# Altium schematic symbol library Blinkinlabs.SchLib: 259 symbols (part 2 of 3)
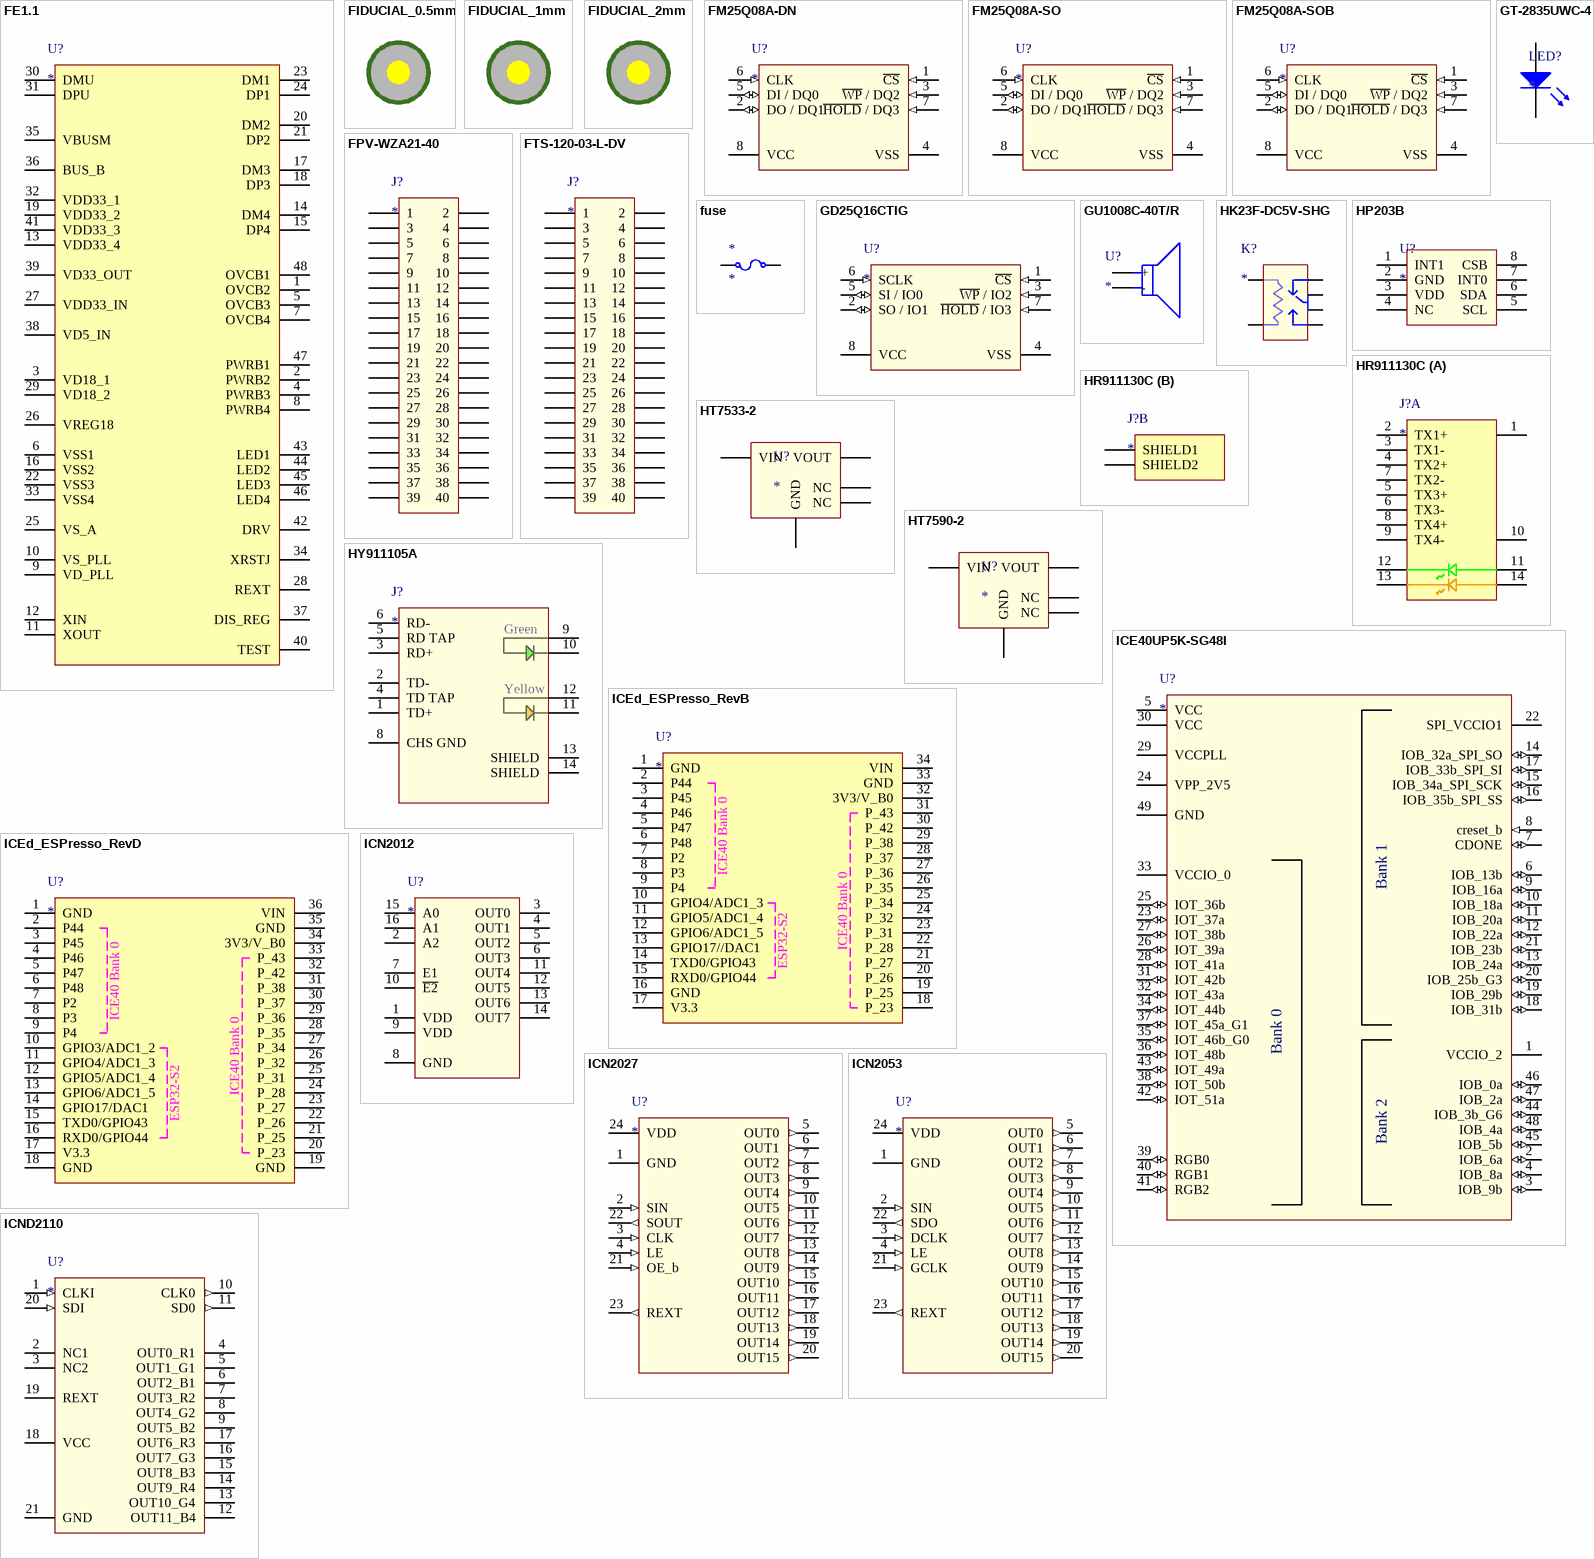
[diagram p10: symbols FE1.1 to ICND2110]

## ICE40UP5K-SG48I
designator U?
iCE40 UltraPlus FPG; Manufacturer: Lattice Semiconductor; PartNumber: ICE40UP5K-SG48I
footprint QFN50P700X700X90_HS-49N (QFN, 48-Leads, Body 7.00x7.00mm, Pitch 0.50mm, Thermal Pad 5.40x5.40mm, IPC Medium Density)
pins: 1 VCCIO_2 (power), 2 IOB_6a (io), 3 IOB_9b (io), 4 IOB_8a (io), 5 VCC (power), 6 IOB_13b (io), 7 CDONE (io), 8 creset_b (in), 9 IOB_16a (io), 10 IOB_18a (io), 11 IOB_20a (io), 12 IOB_22a (io), 13 IOB_24a (io), 14 IOB_32a_SPI_SO (io), 15 IOB_34a_SPI_SCK (io), 16 IOB_35b_SPI_SS (io), 17 IOB_33b_SPI_SI (io), 18 IOB_31b (io), 19 IOB_29b (io), 20 IOB_25b_G3 (io), 21 IOB_23b (io), 22 SPI_VCCIO1 (power), 23 IOT_37a (io), 24 VPP_2V5 (power), 25 IOT_36b (io), 26 IOT_39a (io), 27 IOT_38b (io), 28 IOT_41a (io), 29 VCCPLL (power), 30 VCC (power), 31 IOT_42b (io), 32 IOT_43a (io), 33 VCCIO_0 (power), 34 IOT_44b (io), 35 IOT_46b_G0 (io), 36 IOT_48b (io), 37 IOT_45a_G1 (io), 38 IOT_50b (io), 39 RGB0 (io), 40 RGB1 (io), 41 RGB2 (io), 42 IOT_51a (io), 43 IOT_49a (io), 44 IOB_3b_G6 (io), 45 IOB_5b (io), 46 IOB_0a (io), 47 IOB_2a (io), 48 IOB_4a (io), 49 GND (power)
text: Bank 1; Bank 0; Bank 2

## ICEd_ESPresso_RevB
designator U?
Manufacturer: Blinkinlabs; PartNumber: ICEDESP32S2_B
footprint ICEd ESPresso RevB (castellated edges)
footprint ICEd ESPresso RevB (headers)
pins: 1 GND, 2 P44, 3 P45, 4 P46, 5 P47, 6 P48, 7 P2, 8 P3, 9 P4, 10 GPIO4/ADC1_3, 11 GPIO5/ADC1_4, 12 GPIO6/ADC1_5, 13 GPIO17//DAC1, 14 TXD0/GPIO43, 15 RXD0/GPIO44, 16 GND, 17 V3.3, 18 P_23, 19 P_25, 20 P_26, 21 P_27, 22 P_28, 23 P_31, 24 P_32, 25 P_34, 26 P_35, 27 P_36, 28 P_37, 29 P_38, 30 P_42, 31 P_43, 32 3V3/V_B0, 33 GND, 34 VIN
text: ICE40 Bank 0; ESP32-S2

## ICEd_ESPresso_RevD
designator U?
Manufacturer: Blinkinlabs; PartNumber: ICEDESP32S2_B
footprint ICEd ESPresso RevD (headers)
pins: 1 GND, 2 P44, 3 P45, 4 P46, 5 P47, 6 P48, 7 P2, 8 P3, 9 P4, 10 GPIO3/ADC1_2, 11 GPIO4/ADC1_3, 12 GPIO5/ADC1_4, 13 GPIO6/ADC1_5, 14 GPIO17/DAC1, 15 TXD0/GPIO43, 16 RXD0/GPIO44, 17 V3.3, 18 GND, 19 GND, 20 P_23, 21 P_25, 22 P_26, 23 P_27, 24 P_28, 25 P_31, 26 P_32, 27 P_34, 28 P_35, 29 P_36, 30 P_37, 31 P_38, 32 P_42, 33 P_43, 34 3V3/V_B0, 35 GND, 36 VIN
text: ICE40 Bank 0; ESP32-S2

## ICN2012
designator U?
8-Channel Power Switch for LED Display; Manufacturer: ChipOne; PartNumber: ICN2012
footprint SOP127P600X175-16N (SOP, 16-Leads, Body 9.90x3.90mm, Pitch 1.27mm, IPC Medium Density)
pins: 1 VDD, 2 A2, 3 OUT0, 4 OUT1, 5 OUT2, 6 OUT3, 7 E1, 8 GND, 9 VDD, 10 ~{E2}, 11 OUT4, 12 OUT5, 13 OUT6, 14 OUT7, 15 A0, 16 A1

## ICN2027
designator U?
16-Channel Constant Current LED Sink Driver; Manufacturer: ChipOne; PartNumber: ICN2027BP; ComponentLink2Description: Datasheet; ComponentLink2URL: ICN2027_datasheet_EN_2015_V0.2.pdf
footprint SOP64P600X175-24N (SOP, 24-Leads, Body 8.65x3.90mm, Pitch 0.64mm, IPC Medium Density)
pins: 1 GND (power), 2 SIN (in), 3 CLK (in), 4 LE (in), 5 OUT0 (out), 6 OUT1 (out), 7 OUT2 (out), 8 OUT3 (out), 9 OUT4 (out), 10 OUT5 (out), 11 OUT6 (out), 12 OUT7 (out), 13 OUT8 (out), 14 OUT9 (out), 15 OUT10 (out), 16 OUT11 (out), 17 OUT12 (out), 18 OUT13 (out), 19 OUT14 (out), 20 OUT15 (out), 21 OE_b (in), 22 SOUT (out), 23 REXT (out), 24 VDD (power)

## ICN2053
designator U?
16-Channel PWM Constant Current LED Sink Driver; Manufacturer: ChipOne; PartNumber: ICN2053
footprint SOP64P600X175-24N (SOP, 24-Leads, Body 8.65x3.90mm, Pitch 0.64mm, IPC Medium Density)
pins: 1 GND (power), 2 SIN (in), 3 DCLK (in), 4 LE (in), 5 OUT0 (out), 6 OUT1 (out), 7 OUT2 (out), 8 OUT3 (out), 9 OUT4 (out), 10 OUT5 (out), 11 OUT6 (out), 12 OUT7 (out), 13 OUT8 (out), 14 OUT9 (out), 15 OUT10 (out), 16 OUT11 (out), 17 OUT12 (out), 18 OUT13 (out), 19 OUT14 (out), 20 OUT15 (out), 21 GCLK (in), 22 SDO (out), 23 REXT (out), 24 VDD (power)

## ICND2110
designator U?
12-Channel PWM Constant Current LED Sink Driver; Manufacturer: ChipOne; PartNumber: ICND2110
footprint QFN50P250X450X90_HS-21N (QFN, 20-Leads, Body 2.50x4.50mm, Pitch 0.50mm, Thermal Pad 0.80x2.83mm, IPC Medium Density)
pins: 1 CLKI (in), 2 NC1, 3 NC2, 4 OUT0_R1 (oc), 5 OUT1_G1 (oc), 6 OUT2_B1 (oc), 7 OUT3_R2 (oc), 8 OUT4_G2 (oc), 9 OUT5_B2 (oc), 10 CLK0 (out), 11 SD0 (out), 12 OUT11_B4 (oc), 13 OUT10_G4 (oc), 14 OUT9_R4 (oc), 15 OUT8_B3 (oc), 16 OUT7_G3 (oc), 17 OUT6_R3 (oc), 18 VCC (power), 19 REXT (oe), 20 SDI (in), 21 GND (power)

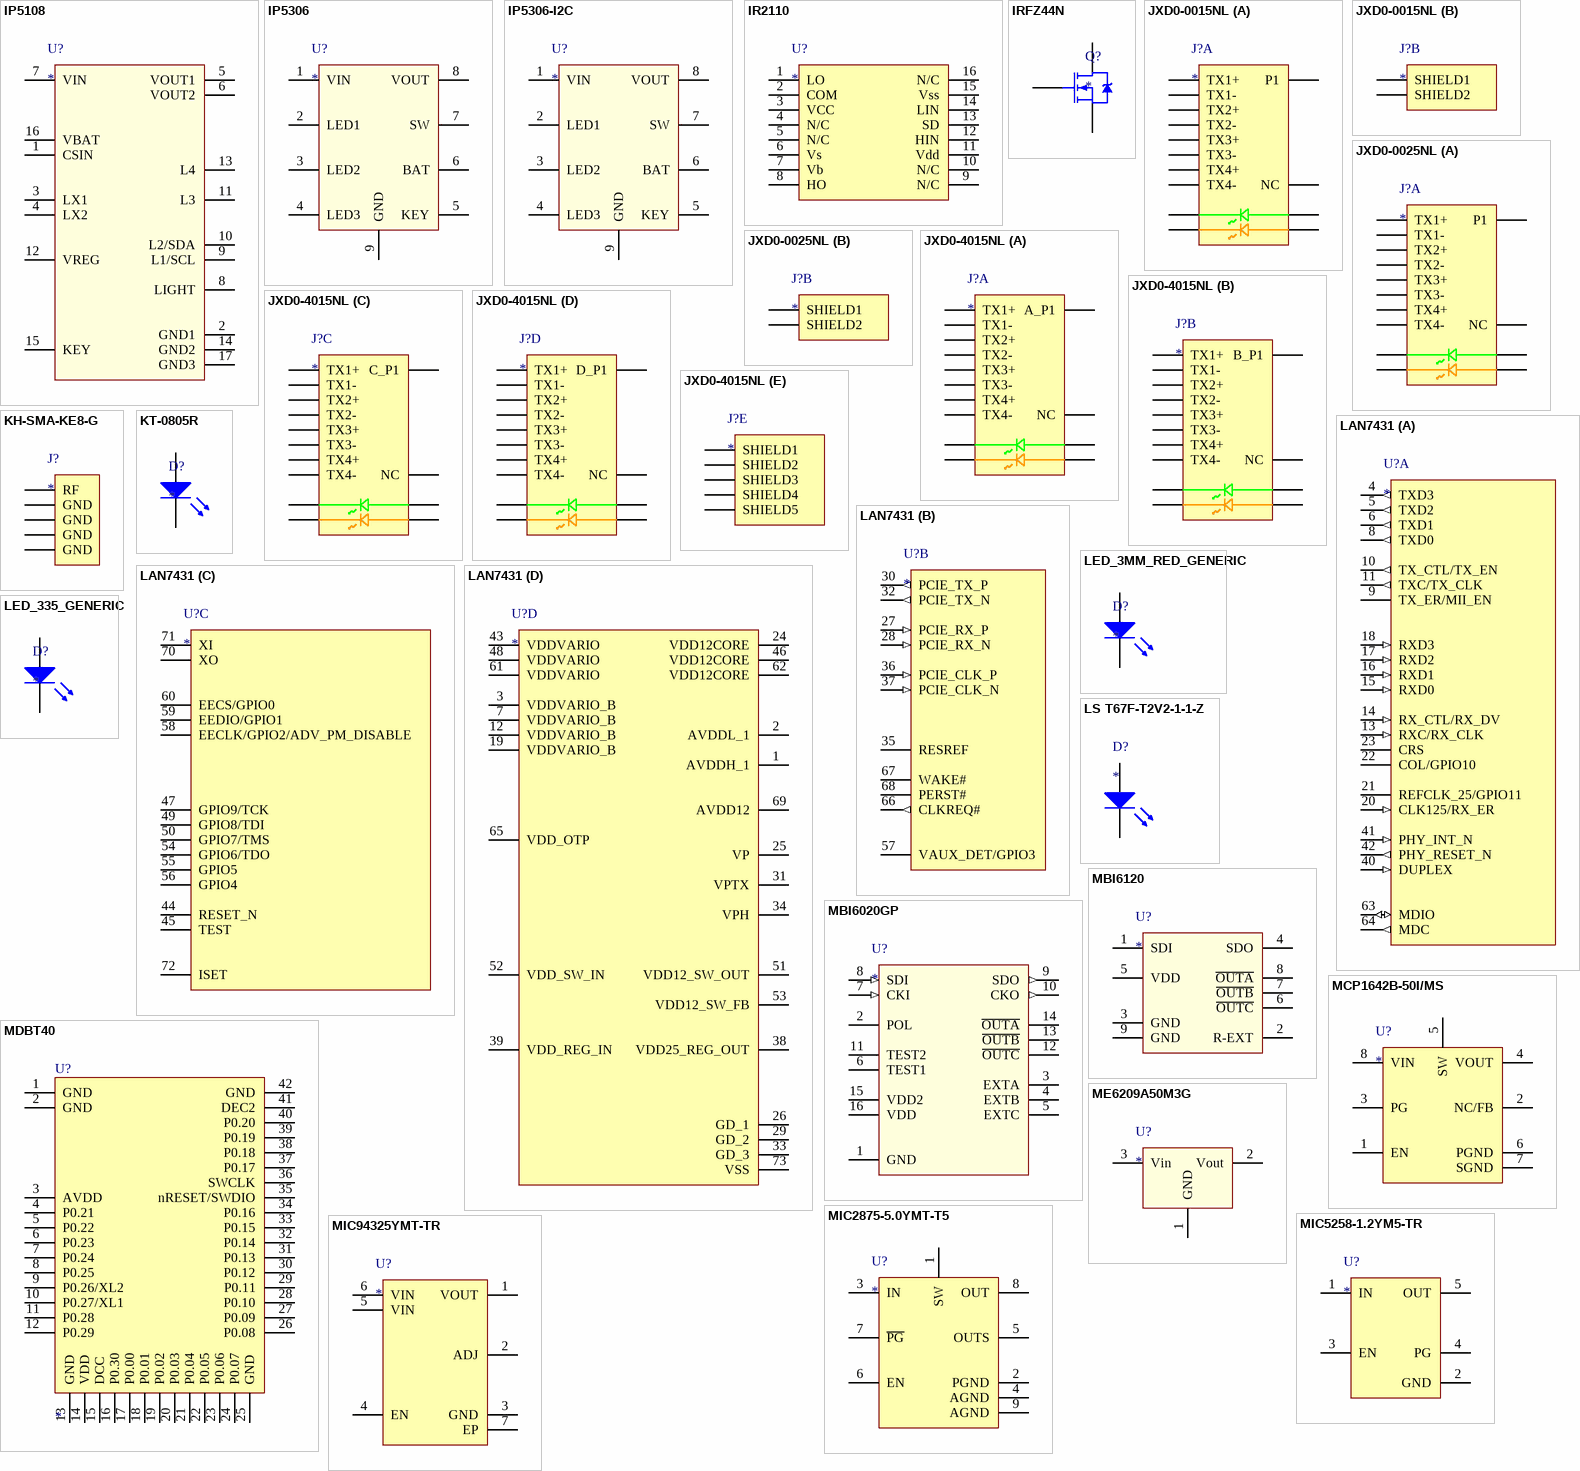
[diagram p4: symbols IP5108 to MIC94325YMT-TR]

## IP5108
designator U?
2A charging, 2 A discharge Highly integrated mobile power SoC; Manufacturer: INJOINIC; PartNumber: IP5108; LCSC PartNumber: C180943
footprint SOP127P600X175_HS-17N (SOP, 16-Leads, Body 9.90x3.90mm, Pitch 1.27mm, Thermal Pad 4.57x2.41mm, IPC Medium Density)
pins: 1 CSIN, 2 GND1, 3 LX1, 4 LX2, 5 VOUT1, 6 VOUT2, 7 VIN, 8 LIGHT, 9 L1/SCL, 10 L2/SDA, 11 L3, 12 VREG, 13 L4, 14 GND2, 15 KEY, 16 VBAT, 17 GND3

## IP5306
designator U?
Fully-Integrated Power Bank System-On-Chip with 2.1A charger, 2.4A discharger; PartNumber: IP5306; Manufacturer: INJOINIC; LCSC PartNumber: C181692
footprint SOP127P600X165_HS-9N (SOP, 8-Leads, Body 5.00x3.90mm, Pitch 1.27mm, Thermal Pad 3.10x2.21mm, IPC Medium Density)
pins: 1 VIN, 2 LED1, 3 LED2, 4 LED3, 5 KEY, 6 BAT, 7 SW, 8 VOUT, 9 GND

## IP5306-I2C
designator U?
Fully-Integrated Power Bank System-On-Chip with 2.1A charger, 2.4A discharger; PartNumber: IP5306; Manufacturer: INJOINIC; LCSC PartNumber: C488349
footprint SOP127P600X165_HS-9N (SOP, 8-Leads, Body 5.00x3.90mm, Pitch 1.27mm, Thermal Pad 3.10x2.21mm, IPC Medium Density)
pins: 1 VIN, 2 LED1, 3 LED2, 4 LED3, 5 KEY, 6 BAT, 7 SW, 8 VOUT, 9 GND

## IR2110
designator U?
HIGH AND LOW SIDE DRIVER; Manufacturer: International Rectifier; PartNumber: IR2110; ComponentLink2Description: Datasheet; ComponentLink2URL: Ir2110.pdf
footprint SOIC127P1030X265-16N (SOIC, 16-Leads, Body 10.30x7.50mm, Pitch 1.27mm, IPC Medium Density)
pins: 1 LO, 2 COM, 3 VCC, 4 N/C, 5 N/C, 6 Vs, 7 Vb, 8 HO, 9 N/C, 10 N/C, 11 Vdd, 12 HIN, 13 SD, 14 LIN, 15 Vss, 16 N/C

## IRFZ44N
designator Q?
HEXFET® Power MOSFET; Manufacturer: International Rectifier; PartNumber: IRFZ44N; ComponentLink2Description: Datasheet; ComponentLink2URL: irfz44n.pdf
footprint TO-220AB
pins: 1 GATE, 2 DRAIN, 3 SOURCE

## JXD0-0015NL
designator J?
CONN JACK 1PORT 1000 BASE-T PCB; Manufacturer: Pulse Electronics Network; PartNumber: JXD0-0015NL; Digikey PartNumber: 553-3736-ND
footprint JXD0-0025NL
part A pins: P1, P2 TX1+, P3 TX1-, P4 TX2+, P5 TX2-, P6 TX3+, P7 TX3-, P8 TX4+, P9 TX4-, P10 NC, P11, P12, P13, P14
part B pins: SHIELD1, SHIELD2

## JXD0-0025NL
designator J?
CONN JACK 1PORT 1000 BASE-T PCB; Manufacturer: Pulse Electronics Network; PartNumber: JXD0-0025NL; Digikey PartNumber: 1840-1005-ND
footprint JXD0-0025NL
part A pins: P1, P2 TX4-, P3 TX4+, P4 TX3-, P5 TX3+, P6 TX2-, P7 TX2+, P8 TX1-, P9 TX1+, P10 NC, P11, P12, P13, P14
part B pins: SHIELD1, SHIELD2

## JXD0-4015NL
designator J?
CONN JACK 4PORT 1000 BASE-T PCB; PartNumber: JXD0-4015NL; Manufacturer: Pulse Electronics Network; Digikey PartNumber: 1840-1015-ND
footprint JXD0-4015NL
part A pins: A_P1, A_P2 TX1+, A_P3 TX1-, A_P4 TX2+, A_P5 TX2-, A_P6 TX3+, A_P7 TX3-, A_P8 TX4+, A_P9 TX4-, A_P10 NC, A_P11, A_P12, A_P13, A_P14
part B pins: B_P1, B_P2 TX1+, B_P3 TX1-, B_P4 TX2+, B_P5 TX2-, B_P6 TX3+, B_P7 TX3-, B_P8 TX4+, B_P9 TX4-, B_P10 NC, B_P11, B_P12, B_P13, B_P14
part C pins: C_P1, C_P2 TX1+, C_P3 TX1-, C_P4 TX2+, C_P5 TX2-, C_P6 TX3+, C_P7 TX3-, C_P8 TX4+, C_P9 TX4-, C_P10 NC, C_P11, C_P12, C_P13, C_P14
part D pins: D_P1, D_P2 TX1+, D_P3 TX1-, D_P4 TX2+, D_P5 TX2-, D_P6 TX3+, D_P7 TX3-, D_P8 TX4+, D_P9 TX4-, D_P10 NC, D_P11, D_P12, D_P13, D_P14
part E pins: SHIELD1, SHIELD2, SHIELD3, SHIELD4, SHIELD5

## KH-SMA-KE8-G
designator J?
Inner bore SMA Board Edge Offset feet 8mm Plugin RF Connectors / Coaxial Connectors ROHS; Manufacturer: Shenzhen Kinghelm Elec; PartNumber: KH-SMA-KE8-G; LCSC PartNumber: C530661
footprint KH-SMA-KE8-G
pins: 1 RF, 2 GND, 3 GND, 4 GND, 5 GND

## KT-0805R
designator D?
Side mount LED, red, 0805; Manufacturer: Kento; PartNumber: Kt-0805R
footprint KT-0805R (Side mount LED, red, 0805)
pins: 1 A, 2 B

## LAN7431
designator U?
Low Power PCIe to Gigabit Ethernet Controller with Integrated Ethernet MAC / PHY; Manufacturer: Microchip; PartNumber: LAN7431
footprint QFN50P1000X1000X100_HS-73N (QFN, 72-Leads, Body 10.00x10.00mm, Pitch 0.50mm, Thermal Pad 7.90x7.90mm, IPC Medium Density)
part A pins: 4 TXD3 (out), 5 TXD2 (out), 6 TXD1 (out), 8 TXD0 (out), 9 TX_ER/MII_EN, 10 TX_CTL/TX_EN (out), 11 TXC/TX_CLK (out), 13 RXC/RX_CLK (in), 14 RX_CTL/RX_DV (in), 15 RXD0 (in), 16 RXD1 (in), 17 RXD2 (in), 18 RXD3 (in), 20 CLK125/RX_ER (in), 21 REFCLK_25/GPIO11, 22 COL/GPIO10, 23 CRS, 40 DUPLEX (in), 41 PHY_INT_N (in), 42 PHY_RESET_N (out), 63 MDIO (io), 64 MDC (out)
part B pins: 27 PCIE_RX_P (in), 28 PCIE_RX_N (in), 30 PCIE_TX_P (out), 32 PCIE_TX_N (out), 35 RESREF, 36 PCIE_CLK_P (in), 37 PCIE_CLK_N (in), 57 VAUX_DET/GPIO3, 66 CLKREQ# (out), 67 WAKE#, 68 PERST#
part C pins: 44 RESET_N, 45 TEST, 47 GPIO9/TCK, 49 GPIO8/TDI, 50 GPIO7/TMS, 54 GPIO6/TDO, 55 GPIO5, 56 GPIO4, 58 EECLK/GPIO2/ADV_PM_DISABLE, 59 EEDIO/GPIO1, 60 EECS/GPIO0, 70 XO, 71 XI, 72 ISET
part D pins: 1 AVDDH_1, 2 AVDDL_1, 3 VDDVARIO_B, 7 VDDVARIO_B, 12 VDDVARIO_B, 19 VDDVARIO_B, 24 VDD12CORE, 25 VP, 26 GD_1, 29 GD_2, 31 VPTX, 33 GD_3, 34 VPH, 38 VDD25_REG_OUT, 39 VDD_REG_IN, 43 VDDVARIO, 46 VDD12CORE, 48 VDDVARIO, 51 VDD12_SW_OUT, 52 VDD_SW_IN, 53 VDD12_SW_FB, 61 VDDVARIO, 62 VDD12CORE, 65 VDD_OTP, 69 AVDD12, 73 VSS

## LED_3MM_RED_GENERIC
designator D?
Generic 3mm LED; Manufacturer: Unknown/Generic; PartNumber: Unknown/Generic
footprint LED3MM_GENERIC (3mm thru-hole LED, generic)
pins: 1, 2

## LED_335_GENERIC
designator D?
SMD LED, side visible, generic; Manufacturer: Unknown/Generic; PartNumber: Unknown/Generic
footprint LED_335_GENERIC (SMD LED, side visible, generic)
pins: 1, 2 1

## LS T67F-T2V2-1-1-Z
designator D?
Standard LEDs - SMD Super Red 633nm; Manufacturer: Osram; PartNumber: LS T67F-T2V2-1-1-Z; Mouser PartNumber: 720-LST67FT2V211Z
footprint LS T67F-T2V2-1-1-Z
pins: 1, 2

## MBI6020GP
designator U?
PWM-Embedded  3-Channel  Constant  Current LED  Sink  Driver  for  Small  RGB  Cluster; Manufacturer: Macroblock; PartNumber: MBI6020GP
footprint SOP64P600X175-16N (Footprint not found)
pins: 1 GND (power), 2 POL, 3 EXTA (oe), 4 EXTB (oe), 5 EXTC (oe), 6 TEST1, 7 CKI (in), 8 SDI (in), 9 SDO (out), 10 CKO (out), 11 TEST2, 12 ~{OUTC} (oc), 13 ~{OUTB} (oc), 14 ~{OUTA} (oc), 15 VDD2 (power), 16 VDD (power)

## MBI6120
designator U?
Single-wire  3-Channel  Constant  Current Sink  Driver  for  Small  LED  Clusters; Manufacturer: Macroblock; PartNumber: MBI6120
footprint SOP127P600X175_HS-9N (SOP, 8-Leads, Body 4.89x3.90mm, Pitch 1.27mm, Thermal Pad 2.29x2.29mm, IPC Medium Density)
pins: 1 SDI, 2 R-EXT, 3 GND, 4 SDO, 5 VDD, 6 ~{OUTC}, 7 ~{OUTB}, 8 ~{OUTA}, 9 GND

## MCP1642B-50I/MS
designator U?
1.8A Input Current Switch, 1 MHz Low-Voltage Start-Up Synchronous Boost Regulator, 5V; Manufacturer: Microchip; PartNumber: MCP1642B-50I/MS; Digikey PartNumber: MCP1642B-50I/MS-ND; LCSC PartNumber: C635908
footprint TSOP65P490X110_HS-9N (TSOP, 8-Leads, Body 3.00x3.00mm, Pitch 0.65mm, Thermal Pad 1.45x1.75mm, IPC Medium Density)
pins: 1 EN, 2 NC/FB, 3 PG, 4 VOUT, 5 SW, 6 PGND, 7 SGND, 8 VIN

## MDBT40
designator U?
Nordic nRF51822 SoC Solution; Manufacturer: Raytac; PartNumber: MDBT40
footprint PCB_MDBT40_10X18
pins: 1 GND, 2 GND, 3 AVDD, 4 P0.21, 5 P0.22, 6 P0.23, 7 P0.24, 8 P0.25, 9 P0.26/XL2, 10 P0.27/XL1, 11 P0.28, 12 P0.29, 13 GND, 14 VDD, 15 DCC, 16 P0.30, 17 P0.00, 18 P0.01, 19 P0.02, 20 P0.03, 21 P0.04, 22 P0.05, 23 P0.06, 24 P0.07, 25 GND, 26 P0.08, 27 P0.09, 28 P0.10, 29 P0.11, 30 P0.12, 31 P0.13, 32 P0.14, 33 P0.15, 34 P0.16, 35 nRESET/SWDIO, 36 SWCLK, 37 P0.17, 38 P0.18, 39 P0.19, 40 P0.20, 41 DEC2, 42 GND

## ME6209A50M3G
designator U?
Low Power Consumption LDO ME6209 Series; Manufacturer: Microne; PartNumber: ME6209A50M3G
footprint SOT95P230X117-3N (SOT23, 3-Leads, Body 2.90x2.30mm, Pitch 0.95mm, IPC Medium Density)
pins: 1 GND (power) "D Ground; substrate.", 2 Vout (power) "Regulated output voltage; collector of the internal PNP pass transistor.", 3 Vin (power) "Unregulated input voltage; 4.5 V to 45 V."

## MIC2875-5.0YMT-T5
designator U?
4.8A ISW, Synchronous Boost Regulator with Bi-Directional Load Disconnect; Manufacturer: Microchip; PartNumber: MIC2875-5.0YMT-T5; Digikey PartNumber: MIC2875-5.0YMT-T5CT-ND
footprint TDFN22-8LD-PL-1 (hand drawn)
pins: 1 SW, 2 PGND, 3 IN, 4 AGND, 5 OUTS, 6 EN, 7 ~{PG}, 8 OUT, 9 AGND

## MIC5258-1.2YM5-TR
designator U?
Linear Voltage Regulator IC Positive Fixed 1 Output  150mA SOT-23-5; Manufacturer: Microchip; PartNumber: MIC5258-1.2YM5-TR
pins: 1 IN, 2 GND, 3 EN, 4 PG, 5 OUT

## MIC94325YMT-TR
designator U?
500mA LDO with  Ripple Blocker Technology; PartNumber: MIC94325YMT-TR; Manufacturer: Microchip Technology; Digikey PartNumber: 576-4164-2-ND
footprint QFN50P160X160X60_HS-7N (QFN, 6-Leads, Body 1.60x1.60mm, Pitch 0.50mm, Thermal Pad 0.50x1.31mm, IPC Medium Density)
pins: 1 VOUT, 2 ADJ, 3 GND, 4 EN, 5 VIN, 6 VIN, 7 EP

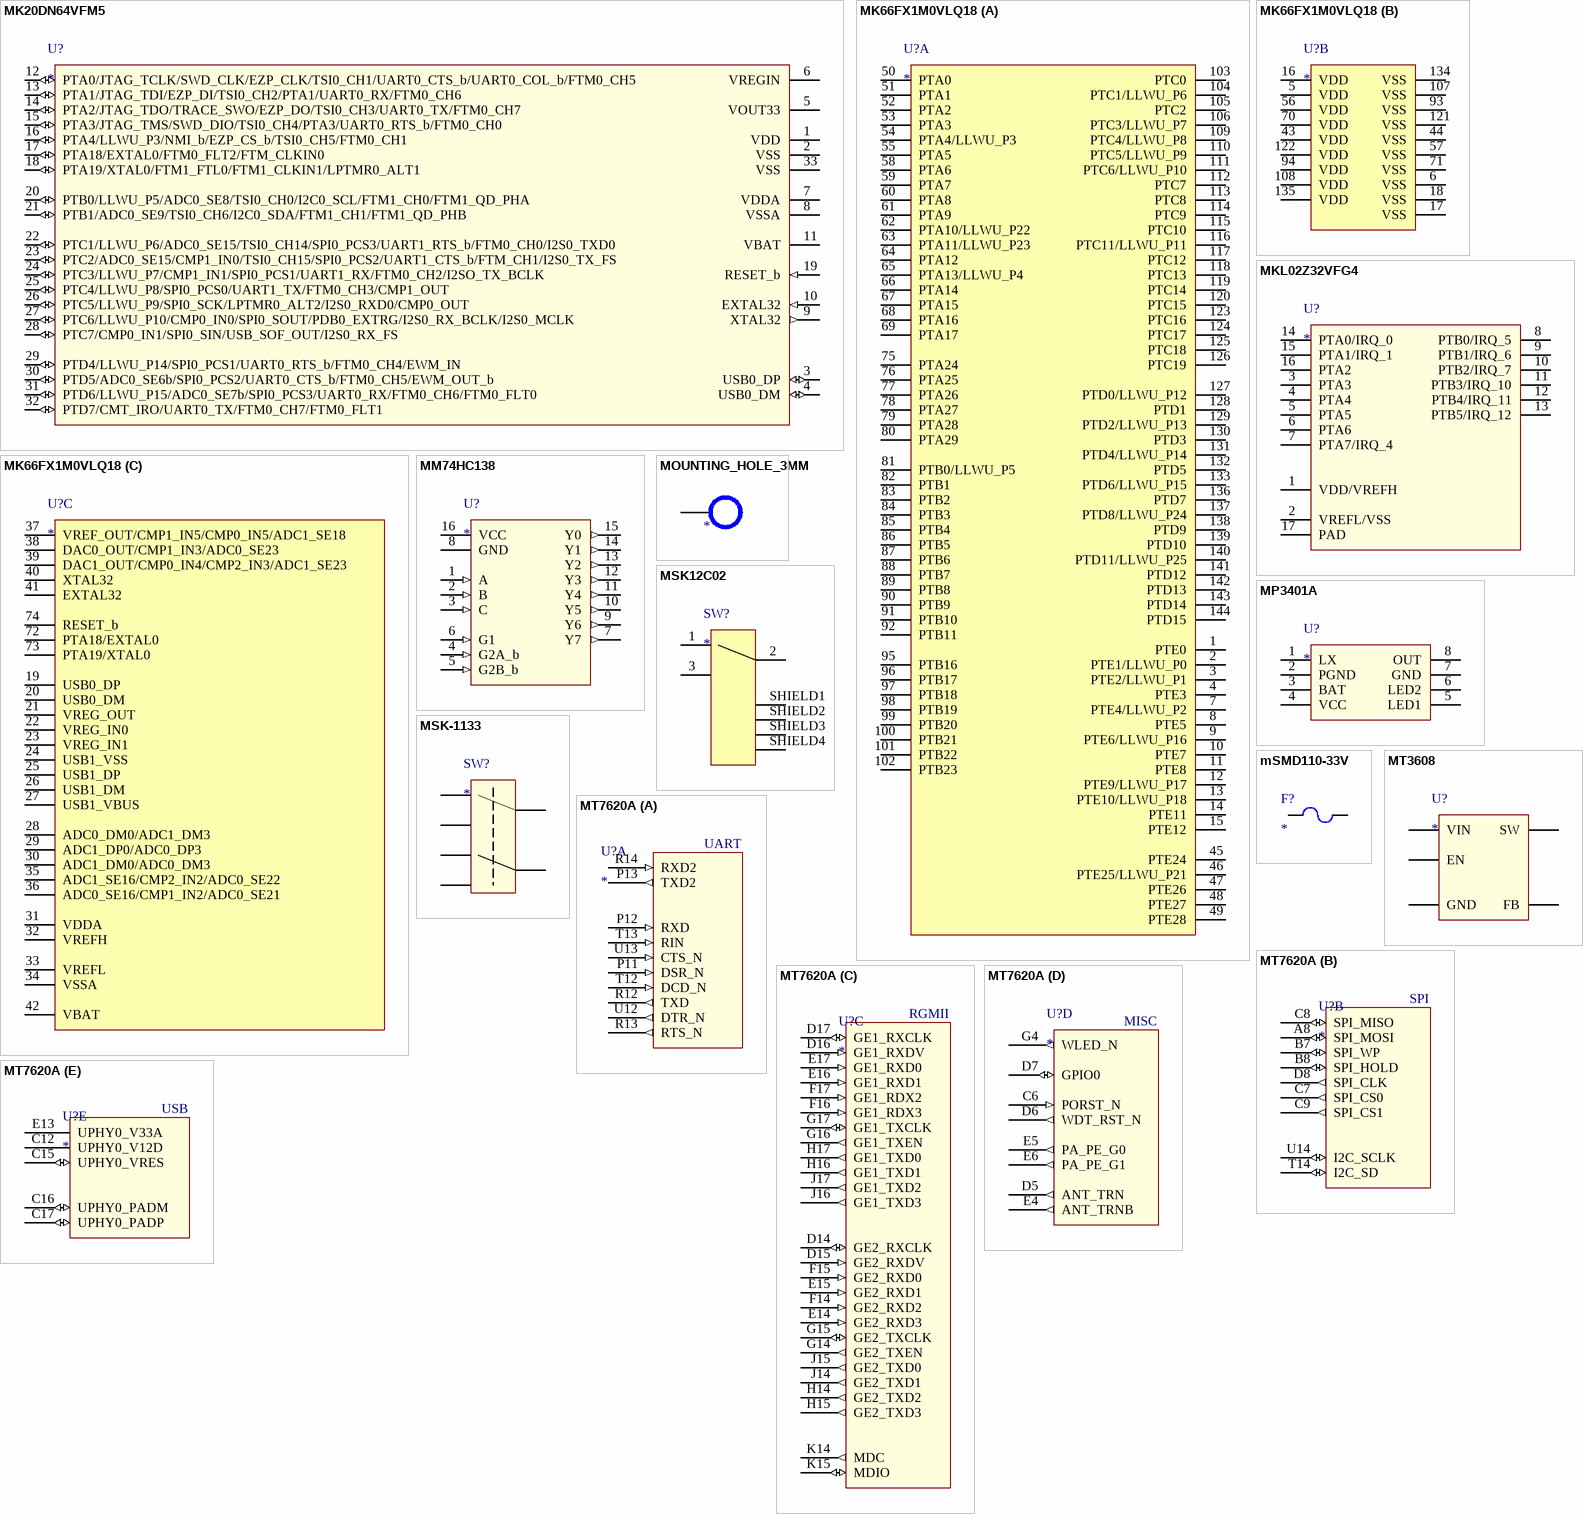
[diagram p5: symbols MK20DN64VFM5 to MT7620A]

## MK20DN64VFM5
designator U?
Cortex M4 ARM microcontroller with USB; Manufacturer: NXP; PartNumber: MK20DN64VFM5; ComponentLink2Description: Datasheet; ComponentLink2URL: K20P32M50SF0.pdf
footprint QFN50P500X500X100_HS-33N (QFN, 32-Leads, Body 5.00x5.00mm, Pitch 0.50mm, Thermal Pad 3.65x3.65mm, IPC Medium Density)
pins: 1 VDD (power), 2 VSS (power), 3 USB0_DP (io), 4 USB0_DM (io), 5 VOUT33 (power), 6 VREGIN (power), 7 VDDA (power), 8 VSSA (power), 9 XTAL32 (out), 10 EXTAL32 (in), 11 VBAT (power), 12 PTA0/JTAG_TCLK/SWD_CLK/EZP_CLK/TSI0_CH1/UART0_CTS_b/UART0_COL_b/FTM0_CH5 (io), 13 PTA1/JTAG_TDI/EZP_DI/TSI0_CH2/PTA1/UART0_RX/FTM0_CH6 (io), 14 PTA2/JTAG_TDO/TRACE_SWO/EZP_DO/TSI0_CH3/UART0_TX/FTM0_CH7 (io), 15 PTA3/JTAG_TMS/SWD_DIO/TSI0_CH4/PTA3/UART0_RTS_b/FTM0_CH0 (io), 16 PTA4/LLWU_P3/NMI_b/EZP_CS_b/TSI0_CH5/FTM0_CH1 (io), 17 PTA18/EXTAL0/FTM0_FLT2/FTM_CLKIN0 (io), 18 PTA19/XTAL0/FTM1_FTL0/FTM1_CLKIN1/LPTMR0_ALT1 (io), 19 RESET_b (in), 20 PTB0/LLWU_P5/ADC0_SE8/TSI0_CH0/I2C0_SCL/FTM1_CH0/FTM1_QD_PHA (io), 21 PTB1/ADC0_SE9/TSI0_CH6/I2C0_SDA/FTM1_CH1/FTM1_QD_PHB (io), 22 PTC1/LLWU_P6/ADC0_SE15/TSI0_CH14/SPI0_PCS3/UART1_RTS_b/FTM0_CH0/I2S0_TXD0 (io), 23 PTC2/ADC0_SE15/CMP1_IN0/TSI0_CH15/SPI0_PCS2/UART1_CTS_b/FTM_CH1/I2S0_TX_FS (io), 24 PTC3/LLWU_P7/CMP1_IN1/SPI0_PCS1/UART1_RX/FTM0_CH2/I2SO_TX_BCLK (io), 25 PTC4/LLWU_P8/SPI0_PCS0/UART1_TX/FTM0_CH3/CMP1_OUT (io), 26 PTC5/LLWU_P9/SPI0_SCK/LPTMR0_ALT2/I2S0_RXD0/CMP0_OUT (io), 27 PTC6/LLWU_P10/CMP0_IN0/SPI0_SOUT/PDB0_EXTRG/I2S0_RX_BCLK/I2S0_MCLK (io), 28 PTC7/CMP0_IN1/SPI0_SIN/USB_SOF_OUT/I2S0_RX_FS (io), 29 PTD4/LLWU_P14/SPI0_PCS1/UART0_RTS_b/FTM0_CH4/EWM_IN (io), 30 PTD5/ADC0_SE6b/SPI0_PCS2/UART0_CTS_b/FTM0_CH5/EWM_OUT_b (io), 31 PTD6/LLWU_P15/ADC0_SE7b/SPI0_PCS3/UART0_RX/FTM0_CH6/FTM0_FLT0 (io), 32 PTD7/CMT_IRO/UART0_TX/FTM0_CH7/FTM0_FLT1 (io), 33 VSS (power) "Ground Pad"

## MK66FX1M0VLQ18
designator U?
180 MHz ARM® Cortex®-M4F Microcontroller.; Manufacturer: NXP; PartNumber: MK66FX1M0VLQ18
footprint TSQFP50P2200X2200X145-144N (TSQFP, 144-Leads, Body 20.00x20.00mm, Pitch 0.50mm, IPC Medium Density)
part A pins: 1 PTE0, 2 PTE1/LLWU_P0, 3 PTE2/LLWU_P1, 4 PTE3, 7 PTE4/LLWU_P2, 8 PTE5, 9 PTE6/LLWU_P16, 10 PTE7, 11 PTE8, 12 PTE9/LLWU_P17, 13 PTE10/LLWU_P18, 14 PTE11, 15 PTE12, 45 PTE24, 46 PTE25/LLWU_P21, 47 PTE26, 48 PTE27, 49 PTE28, 50 PTA0, 51 PTA1, 52 PTA2, 53 PTA3, 54 PTA4/LLWU_P3, 55 PTA5, 58 PTA6, 59 PTA7, 60 PTA8, 61 PTA9, 62 PTA10/LLWU_P22, 63 PTA11/LLWU_P23, 64 PTA12, 65 PTA13/LLWU_P4, 66 PTA14, 67 PTA15, 68 PTA16, 69 PTA17, 75 PTA24, 76 PTA25, 77 PTA26, 78 PTA27, 79 PTA28, 80 PTA29, 81 PTB0/LLWU_P5, 82 PTB1, 83 PTB2, 84 PTB3, 85 PTB4, 86 PTB5, 87 PTB6, 88 PTB7, 89 PTB8, 90 PTB9, 91 PTB10, 92 PTB11, 95 PTB16, 96 PTB17, 97 PTB18, 98 PTB19, 99 PTB20, 100 PTB21, 101 PTB22, 102 PTB23, 103 PTC0, 104 PTC1/LLWU_P6, 105 PTC2, 106 PTC3/LLWU_P7, 109 PTC4/LLWU_P8, 110 PTC5/LLWU_P9, 111 PTC6/LLWU_P10, 112 PTC7, 113 PTC8, 114 PTC9, 115 PTC10, 116 PTC11/LLWU_P11, 117 PTC12, 118 PTC13, 119 PTC14, 120 PTC15, 123 PTC16, 124 PTC17, 125 PTC18, 126 PTC19, 127 PTD0/LLWU_P12, 128 PTD1, 129 PTD2/LLWU_P13, 130 PTD3, 131 PTD4/LLWU_P14, 132 PTD5, 133 PTD6/LLWU_P15, 136 PTD7, 137 PTD8/LLWU_P24, 138 PTD9, 139 PTD10, 140 PTD11/LLWU_P25, 141 PTD12, 142 PTD13, 143 PTD14, 144 PTD15
part B pins: 5 VDD, 6 VSS, 16 VDD, 17 VSS, 18 VSS, 43 VDD, 44 VSS, 56 VDD, 57 VSS, 70 VDD, 71 VSS, 93 VSS, 94 VDD, 107 VSS, 108 VDD, 121 VSS, 122 VDD, 134 VSS, 135 VDD
part C pins: 19 USB0_DP, 20 USB0_DM, 21 VREG_OUT, 22 VREG_IN0, 23 VREG_IN1, 24 USB1_VSS, 25 USB1_DP, 26 USB1_DM, 27 USB1_VBUS, 28 ADC0_DM0/ADC1_DM3, 29 ADC1_DP0/ADC0_DP3, 30 ADC1_DM0/ADC0_DM3, 31 VDDA, 32 VREFH, 33 VREFL, 34 VSSA, 35 ADC1_SE16/CMP2_IN2/ADC0_SE22, 36 ADC0_SE16/CMP1_IN2/ADC0_SE21, 37 VREF_OUT/CMP1_IN5/CMP0_IN5/ADC1_SE18, 38 DAC0_OUT/CMP1_IN3/ADC0_SE23, 39 DAC1_OUT/CMP0_IN4/CMP2_IN3/ADC1_SE23, 40 XTAL32, 41 EXTAL32, 42 VBAT, 72 PTA18/EXTAL0, 73 PTA19/XTAL0, 74 RESET_b

## MKL02Z32VFG4
designator U?
Kinetis KL02 32 KB Flash; Manufacturer: NXP; PartNumber: MKL02Z32VFG4
footprint QFN50P300X300X65_HS-17N (QFN, 16-Leads, Body 3.00x3.00mm, Pitch 0.50mm, Thermal Pad 1.90x1.90mm, IPC Medium Density)
pins: 1 VDD/VREFH, 2 VREFL/VSS, 3 PTA3, 4 PTA4, 5 PTA5, 6 PTA6, 7 PTA7/IRQ_4, 8 PTB0/IRQ_5, 9 PTB1/IRQ_6, 10 PTB2/IRQ_7, 11 PTB3/IRQ_10, 12 PTB4/IRQ_11, 13 PTB5/IRQ_12, 14 PTA0/IRQ_0, 15 PTA1/IRQ_1, 16 PTA2, 17 PAD

## MM74HC138
designator U?
3-to-8 Line Decoder; Manufacturer: ON Semiconductor; PartNumber: MM74HC138
footprint TSOP65P770X110-16N (TSOP, 16-Leads, Body 5.00x4.40mm, Pitch 0.65mm, IPC Medium Density)
pins: 1 A (in), 2 B (in), 3 C (in), 4 G2A_b (in), 5 G2B_b (in), 6 G1 (in), 7 Y7 (out), 8 GND (power), 9 Y6 (out), 10 Y5 (out), 11 Y4 (out), 12 Y3 (out), 13 Y2 (out), 14 Y1 (out), 15 Y0 (out), 16 VCC (power)

## MOUNTING_HOLE_3MM
designator MP?  (no BOM)
Mounting hole
footprint MOUNT_3MM (3mm mounting hole)
pins: 1 MOUNT, 2, 3, 4, 5, 6, 7, 8, 9

## MP3401A
designator U?
Lithium Ion battery charger with integrated 5v boost regulator; Manufacturer: ThinkPlus; PartNumber: MP3401A; ComponentLink2Description: Datasheet; ComponentLink2URL: MP3401A SPEC V1_2.pdf
footprint TSOP127P600X155-8N (TSOP, 8-Leads, Body 4.90x3.90mm, Pitch 1.27mm, IPC Medium Density)
pins: 1 LX, 2 PGND, 3 BAT, 4 VCC, 5 LED1, 6 LED2, 7 GND, 8 OUT

## MSK12C02
designator SW?
Surface Mount 50mA SPDT 12V 10000次 SMD Slide Switches ROHS; PartNumber: MSK12C02; Manufacturer: SHOU HAN; LCSC PartNumber: C431540
footprint MSK12C02 (Surface Mount 50mA SPDT 12V 10000? SMD Slide Switches ROHS)
pins: 1, 2, 3, SHIELD1, SHIELD2, SHIELD3, SHIELD4

## MSK-1133
designator SW?
SMD micro toggle switch, 2 position, 2 circuit; Manufacturer: Unknown/Generic; PartNumber: MSK-1133
footprint MSK-1133 (Slide switch, 2 position, 2 circuit)
footprint MSK-1133-NOHOLE (SMD micro toggle switch, 2 position, 2 circuit)
pins: 1 A, 2, 3, 4, 5, 6

## mSMD110-33V
designator F?
Surface Mount Fuses 33V 100A 1.1A 2.2A 1812 RoHS; Manufacturer: Sea & Land Electronic Corp; PartNumber: mSMD110-33V; ComponentLink2Description: Datasheet; ComponentLink2URL: nSMD020-30V 0-2A-30V-Self-healing-fuse_C69680.pdf
footprint SEAANDLAND_1812 (Surface Mount Fuses 1812)
pins: 1, 2

## MT3608
designator U?
High Efficiency 1.2MHz 2A Step Up Converter; Manufacturer: AEROSEMI; PartNumber: MT3608
footprint SOT95P280X145-6N-3 (SOT23, 6-Leads, Body 2.90x2.80mm, Pitch 0.95mm, IPC Medium Density)
pins: 1 SW, 2 GND, 3 FB, 4 EN, 5 VIN

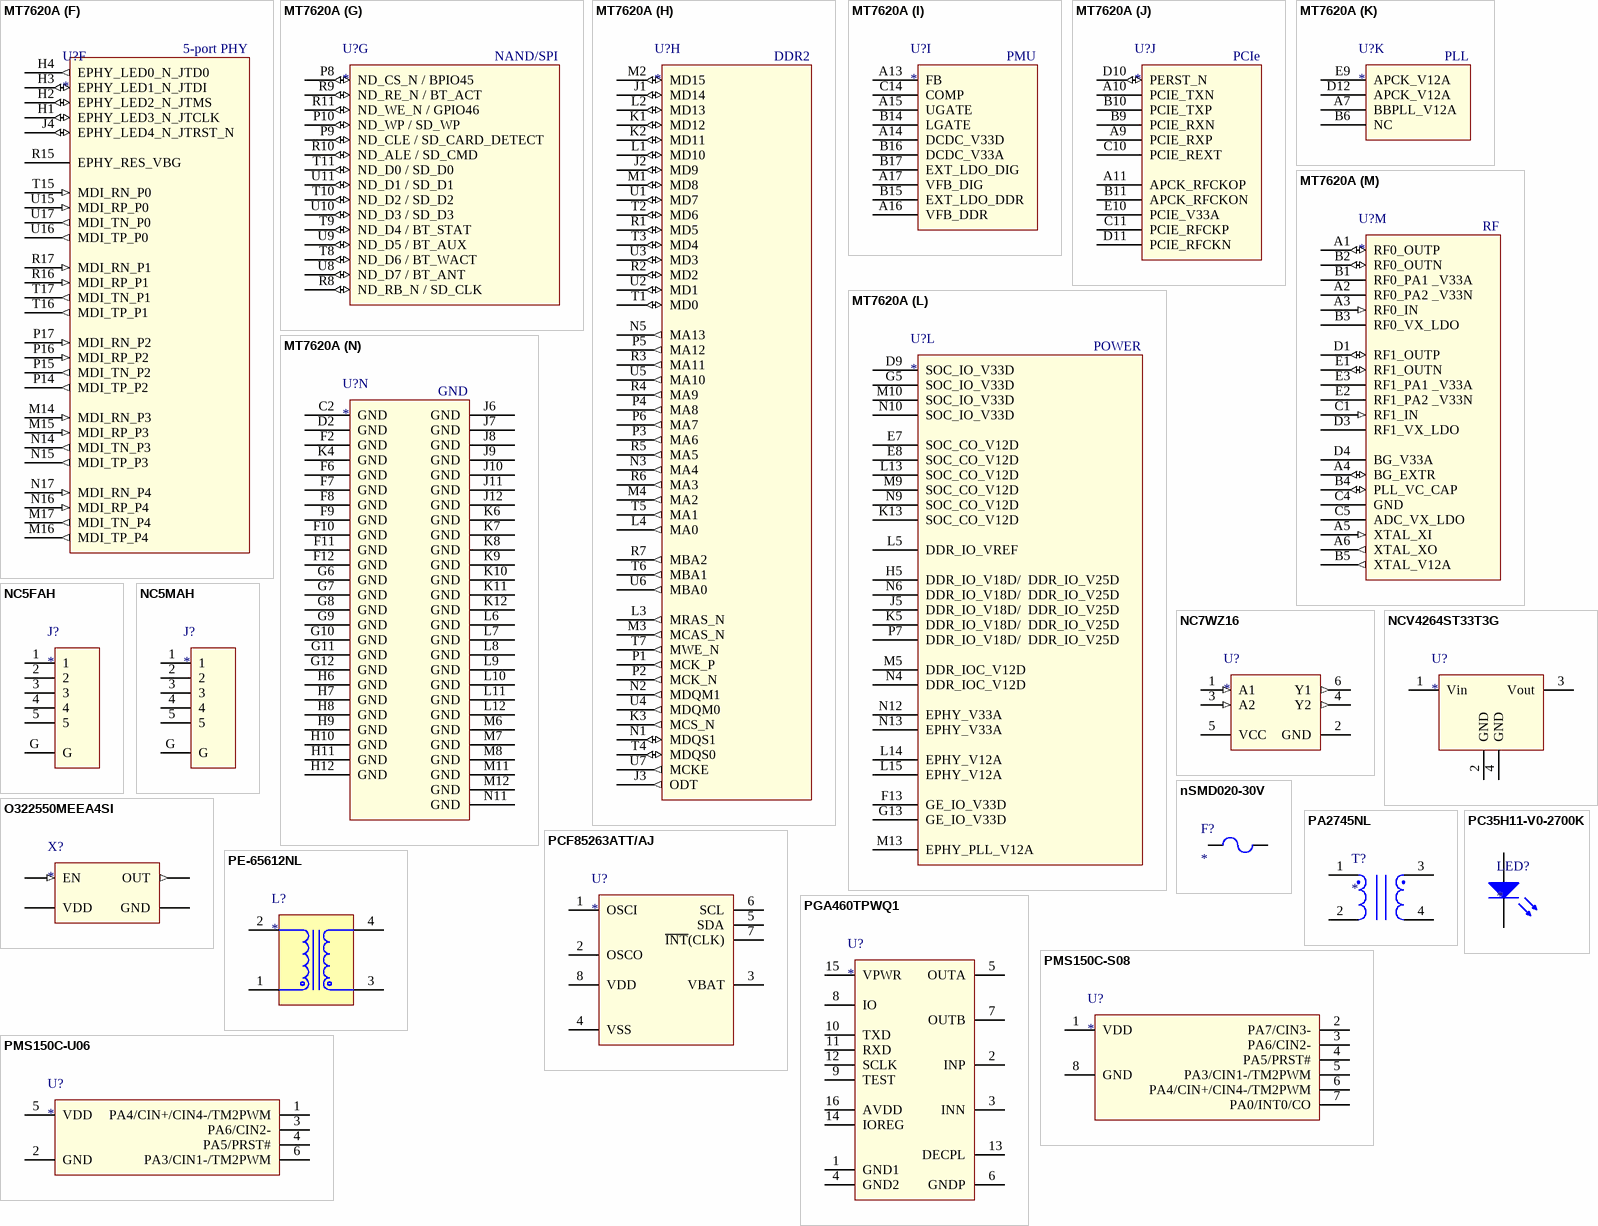
[diagram p6: symbols MT7620A to PMS150C-U06]

## MT7620A
designator U?
Integrated 802.11n MAC/BBP and 2.4 GHz RF/FEM Router-on-a-Chip; Manufacturer: MediaTek; PartNumber: MT7620A; ComponentLink2Description: Datasheet; ComponentLink2URL: MT7620_Datasheet.pdf
footprint BGA265C65P17X17_1100X1100X120 (BGA, 265-Leads, Body 11.00x11.00mmx1.20mm, Pitch 0.65mm)
part A pins: P11 DSR_N (in) "UART DSR_N", P12 RXD (in) "UART RXD", P13 TXD2 (out) "UART Lite TXD", R12 TXD (out) "UART TXD", R13 RTS_N (out) "UART RTS", R14 RXD2 (in) "UART Lite RXD", T12 DCD_N (in) "UART DCD_N", T13 RIN (in) "UART RIN", U12 DTR_N (out) "UART DTR", U13 CTS_N (in) "UART CTS_N"
part B pins: A8 SPI_MOSI (io) "Master input/Slave output", B7 SPI_WP (io) "GOP function", B8 SPI_HOLD (io) "GOP function", C7 SPI_CS0 (out) "SPI chip select0", C8 SPI_MISO (io) "Master output/Slave input", C9 SPI_CS1 (out) "SPI chip select1", D8 SPI_CLK (out) "SPI clock", T14 I2C_SD (io) "I2C Data", U14 I2C_SCLK (io) "I2C Clock"
part C pins: D14 GE2_RXCLK (io), D15 GE2_RXDV (in), D16 GE1_RXDV (in), D17 GE1_RXCLK (io), E14 GE2_RXD3 (in), E15 GE2_RXD1 (in), E16 GE1_RXD1 (in), E17 GE1_RXD0 (in), F14 GE2_RXD2 (in), F15 GE2_RXD0 (in), F16 GE1_RDX3 (in), F17 GE1_RDX2 (in), G14 GE2_TXEN (out), G15 GE2_TXCLK (io), G16 GE1_TXEN (out), G17 GE1_TXCLK (io), H14 GE2_TXD2 (out), H15 GE2_TXD3 (out), H16 GE1_TXD1 (out), H17 GE1_TXD0 (out), J14 GE2_TXD1 (out), J15 GE2_TXD0 (out), J16 GE1_TXD3 (out), J17 GE1_TXD2 (out), K14 MDC (out), K15 MDIO (io)
part D pins: C6 PORST_N (in) "Power on reset", D5 ANT_TRN (out) "Positive signal for antenna T/R switch", D6 WDT_RST_N (out) "Watchdog Reset", D7 GPIO0 (io) "GPO0 (output only)", E4 ANT_TRNB (out) "Negative signal for antenna T/R switch", E5 PA_PE_G0 (out) "0 V to 3.3 V control for external PA0", E6 PA_PE_G1 (out) "0 V to 3.3 V control for external PA1", G4 WLED_N (out) "WLAN Activity LED"
part E pins: C12 UPHY0_V12D (power) "1.2 V USB PHY digital power supply", C15 UPHY0_VRES (io), C16 UPHY0_PADM (io) "USB Port0 data pin Data-", C17 UPHY0_PADP (io) "USB Port0 data pin Data+", E13 UPHY0_V33A (power) "3.3 V USB PHY analog power supply"
part F pins: H1 EPHY_LED3_N_JTCLK (io) "10/100 PHY Port #3 activity LED, JTAG_CLK", H2 EPHY_LED2_N_JTMS (io) "10/100 PHY Port #2 activity LED, JTAG_TMS", H3 EPHY_LED1_N_JTDI (io) "10/100 PHY Port #1 activity LED, JTAG_TDI", H4 EPHY_LED0_N_JTD0 (out) "10/100 PHY Port #0 activity LED, JTAG_TDO", J4 EPHY_LED4_N_JTRST_N (io) "10/100 PHY Port #4 activity LED, JTAG_TRST_N", M14 MDI_RN_P3 (in) "10/100 PHY Port #3 RXN", M15 MDI_RP_P3 (in) "10/100 PHY Port #3 RXP", M16 MDI_TP_P4 (out) "10/100 PHY Port #4 TXP", M17 MDI_TN_P4 (out) "10/100 PHY Port #4 TXN", N14 MDI_TN_P3 (out) "10/100 PHY Port #3 TXN", N15 MDI_TP_P3 (out) "10/100 PHY Port #3 TXP", N16 MDI_RP_P4 (in) "10/100 PHY Port #4 RXP", N17 MDI_RN_P4 (in) "10/100 PHY Port #4 RXN", P14 MDI_TP_P2 (out) "10/100 PHY Port #2 TXP", P15 MDI_TN_P2 (out) "10/100 PHY Port #2 TXN", P16 MDI_RP_P2 (in) "10/100 PHY Port #2 RXP", P17 MDI_RN_P2 (in) "10/100 PHY Port #2 RXN", R15 EPHY_RES_VBG "Connect to an external resistor to provide accurate  bias current", R16 MDI_RP_P1 (in) "10/100 PHY Port #1 RXP", R17 MDI_RN_P1 (in) "10/100 PHY Port #1 RXN", T15 MDI_RN_P0 (in) "10/100 PHY Port #0 RXN", T16 MDI_TP_P1 (out) "10/100 PHY Port #1 TXP", T17 MDI_TN_P1 (out) "10/100 PHY Port #1 TXN", U15 MDI_RP_P0 (in) "10/100 PHY Port #0 RXP", U16 MDI_TP_P0 (out) "10/100 PHY Port #0 TXP", U17 MDI_TN_P0 (out) "10/100 PHY Port #0 TXN"
part G pins: P8 ND_CS_N / BPIO45 (io), P9 ND_CLE / SD_CARD_DETECT (io), P10 ND_WP / SD_WP (io), R8 ND_RB_N / SD_CLK (io), R9 ND_RE_N / BT_ACT (io), R10 ND_ALE / SD_CMD (io), R11 ND_WE_N / GPIO46 (io), T8 ND_D6 / BT_WACT (io), T9 ND_D4 / BT_STAT (io), T10 ND_D2 / SD_D2 (io), T11 ND_D0 / SD_D0 (io), U8 ND_D7 / BT_ANT (io), U9 ND_D5 / BT_AUX (io), U10 ND_D3 / SD_D3 (io), U11 ND_D1 / SD_D1 (io)
part H pins: J1 MD14 (io) "DDR2 Data bit #14", J2 MD9 (io) "DDR2 Data bit #9", J3 ODT (out) "DDR2 ODT", K1 MD12 (io) "DDR2 Data bit #12", K2 MD11 (io) "DDR2 Data bit #11", K3 MCS_N (out) "DDR2 MCS_N", L1 MD10 (io) "DDR2 Data bit #10", L2 MD13 (io) "DDR2 Data bit #13", L3 MRAS_N (out) "DDR2 MRAS_N", L4 MA0 (out) "DDR2 Address bit #0", M1 MD8 (io) "DDR2 Data bit #8", M2 MD15 (io) "DDR2 Data bit #15", M3 MCAS_N (out) "DDR2 MCAS_N", M4 MA2 (out) "DDR2 Address bit #2", N1 MDQS1 (io) "DDR2 MDQS1", N2 MDQM1 (out) "DDR2 MDQM1", N3 MA4 (out) "DDR2 Address bit #4", N5 MA13 (out) "DDR2 Address bit #13", P1 MCK_P (out) "DDR2 MCK_P", P2 MCK_N (out) "DDR2 MCK_N", P3 MA6 (out) "DDR2 Address bit #6", P4 MA8 (out) "DDR2 Address bit #8", P5 MA12 (out) "DDR2 Address bit #12", P6 MA7 (out) "DDR2 Address bit #7", R1 MD5 (io) "DDR2 Data bit #5", R2 MD2 (io) "DDR2 Data bit #2", R3 MA11 (out) "DDR2 Address bit #11", R4 MA9 (out) "DDR2 Address bit #9", R5 MA5 (out) "DDR2 Address bit #5", R6 MA3 (out) "DDR2 Address bit #3", R7 MBA2 (out) "DDR2 MBA #2", T1 MD0 (io) "DDR2 Data bit #0", T2 MD6 (io) "DDR2 Data bit #6", T3 MD4 (io) "DDR2 Data bit #4", T4 MDQS0 (io) "DDR2 MDQS0", T5 MA1 (out) "DDR2 Address bit #1", T6 MBA1 (out) "DDR2 MBA #1", T7 MWE_N (out) "DDR2 MWE_N", U1 MD7 (io) "DDR2 Data bit #7", U2 MD1 (io) "DDR2 Data bit #1", U3 MD3 (io) "DDR2 Data bit #3", U4 MDQM0 (out) "DDR2 MDQM0", U5 MA10 (out) "DDR2 Address bit #10", U6 MBA0 (out) "DDR2 MBA #0", U7 MCKE (out) "DDR2 MCKE"
part I pins: A13 FB "This pin is part of the error amplifier and provides the  reference voltage which the sampled output voltage is  compared to. A difference between these two  voltages indicates an error in the output voltage", A14 DCDC_V33D (power) "3.3 V power supply only for gate driver of SW  (Ipeak<200 mA; Iavg<20 mA)", A15 UGATE "Gate drive for external upper MOSFET (Ipeak<200 mA;  Iavg<20 mA)", A16 VFB_DDR "DDR output feedback", A17 VFB_DIG "1.2 V output feedback", B14 LGATE "Gate drive for external lower MOSFET (Ipeak<200 mA;  Iavg<20 mA)", B15 EXT_LDO_DDR "Connect to Base terminal of external BJT (Iavg<20 mA)", B16 DCDC_V33A (power) "3.3 V analog power (Ipeak<200 mA; Iavg<10 mA)", B17 EXT_LDO_DIG "Connect to Base terminal of external BJT (Iavg<20 mA)", C14 COMP "This pin provides the error amplifier output which  compensates for errors in the output voltage identified  using the FB pin."
part J pins: A9 PCIE_RXP "PCIe0 differential receive RX +", A10 PCIE_TXN "PCIe0 differential transmit TX -", A11 APCK_RFCKOP "External reference clock output (positive)", B9 PCIE_RXN "PCIe0 differential receive RX -", B10 PCIE_TXP "PCIe0 differential transmit TX+", B11 APCK_RFCKON "External reference clock output (negative)", C10 PCIE_REXT "PCIe0 Reference resistor connection  (12K Ohm +/- 1 %)", C11 PCIE_RFCKP  "Device reference clock input (positive)", D10 PERST_N (io) "PICe reset", D11 PCIE_RFCKN "Device reference clock input (negative)", E10 PCIE_V33A (power) "PCIe 3.3 V analog power"
part K pins: A7 BBPLL_V12A (power) "1.2 V analog power supply to BB PLL", B6 NC, D12 APCK_V12A (power) "1.2 V analog power supply for CPLL/PPLL", E9 APCK_V12A  (power) "1.2 V analog power supply for CPLL/PPLL"
part L pins: D9 SOC_IO_V33D (power) "3.3 V digital I/O power supply", E7 SOC_CO_V12D  (power) "1.2 V digital core power supply", E8 SOC_CO_V12D  (power) "1.2 V digital core power supply", F13 GE_IO_V33D (power) "3.3 V power supply for RGMII", G5 SOC_IO_V33D (power) "3.3 V digital I/O power supply", G13 GE_IO_V33D (power) "3.3 V power supply for RGMII", H5 DDR_IO_V18D/  DDR_IO_V25D (power) "1.8 V/2.5 V/3.3 V level shifter power supply for  DDR2/DDR1/SDR", J5 DDR_IO_V18D/  DDR_IO_V25D (power) "1.8 V/2.5 V/3.3 V level shifter power supply for  DDR2/DDR1/SDR", K5 DDR_IO_V18D/  DDR_IO_V25D (power) "1.8 V/2.5 V/3.3 V level shifter power supply for  DDR2/DDR1/SDR", K13 SOC_CO_V12D  (power) "1.2 V digital core power supply", L5 DDR_IO_VREF (power) "0.9 V/1.25 V/GND reference voltage power supply for  DDR2/DDR1/SDR", L13 SOC_CO_V12D  (power) "1.2 V digital core power supply", L14 EPHY_V12A (power) "1.2 V power supply for EPHY", L15 EPHY_V12A (power) "1.2 V power supply for EPHY", M5 DDR_IOC_V12D (power) "1.2 V I/O core power supply for DDR and SDR", M9 SOC_CO_V12D  (power) "1.2 V digital core power supply", M10 SOC_IO_V33D (power) "3.3 V digital I/O power supply", M13 EPHY_PLL_V12A (power) "1.2 V power supply for EPHY PLL", N4 DDR_IOC_V12D (power) "1.2 V I/O core power supply for DDR and SDR", N6 DDR_IO_V18D/  DDR_IO_V25D (power) "1.8 V/2.5 V/3.3 V level shifter power supply for  DDR2/DDR1/SDR", N9 SOC_CO_V12D  (power) "1.2 V digital core power supply", N10 SOC_IO_V33D (power) "3.3 V digital I/O power supply", N12 EPHY_V33A (power) "3.3 V power supply for EPHY", N13 EPHY_V33A (power) "3.3 V power supply for EPHY", P7 DDR_IO_V18D/  DDR_IO_V25D (power) "1.8 V/2.5 V/3.3 V level shifter power supply for  DDR2/DDR1/SDR"
part M pins: A1 RF0_OUTP (io) "2.4 GHz TX0 PA output (positive)  2.4 GHz RX0 LNA input (positive)", A2 RF0_PA2 _V33N (power) "3.3 V Supply for RF channel0", A3 RF0_IN (in) "2.4 GHz RX0 input (aux LNA0 input)", A4 BG_EXTR (io) "External reference resistor (24 kΩ)", A5 XTAL_XI (in) "Crystal oscillator input", A6 XTAL_XO (out) "Crystal oscillator output", B1 RF0_PA1 _V33A (power) "3.3 V Supply for RF channel0", B2 RF0_OUTN (io) "2.4 GHz TX0 PA output (negative)  2.4 GHz RX0 LNA input (negative)", B3 RF0_VX_LDO (power) "1.2 V to 3.3 V supply for RF0", B4 PLL_VC_CAP (io) "PLL external loop filter", B5 XTAL_V12A (out) "Crystal LDO output", C1 RF1_IN (in) "2.4 GHz RX1 input (aux LNA0 input)", C4 GND (power) "Ground ball", C5 ADC_VX_LDO (power) "1.2 V to 3.3 V Supply for ADC", D1 RF1_OUTP (io) "2.4 GHz TX1 PA output (positive)  2.4 GHz RX1 LNA input (positive)", D3 RF1_VX_LDO (power) "1.2 V to 3.3 V supply for RF1", D4 BG_V33A (power) "3.3 V supply for band gap reference", E1 RF1_OUTN (io) "2.4 GHz TX1 PA output (negative)  2.4 GHz RX1 LNA input (negative)", E2 RF1_PA2 _V33N (power) "3.3 V Supply for RF channel1", E3 RF1_PA1 _V33A (power) "3.3 V Supply for RF channel1"
part N pins: C2 GND (power), D2 GND (power), F2 GND (power), F6 GND (power), F7 GND (power), F8 GND (power), F9 GND (power), F10 GND (power), F11 GND (power), F12 GND (power), G6 GND (power), G7 GND (power), G8 GND (power), G9 GND (power), G10 GND (power), G11 GND (power), G12 GND (power), H6 GND (power), H7 GND (power), H8 GND (power), H9 GND (power), H10 GND (power), H11 GND (power), H12 GND (power), J6 GND (power), J7 GND (power), J8 GND (power), J9 GND (power), J10 GND (power), J11 GND (power), J12 GND (power), K4 GND (power), K6 GND (power), K7 GND (power), K8 GND (power), K9 GND (power), K10 GND (power), K11 GND (power), K12 GND (power), L6 GND (power), L7 GND (power), L8 GND (power), L9 GND (power), L10 GND (power), L11 GND (power), L12 GND (power), M6 GND (power), M7 GND (power), M8 GND (power), M11 GND (power), M12 GND (power), N11 GND (power)
part A text: UART
part B text: SPI
part C text: RGMII
part D text: MISC
part E text: USB
part F text: 5-port PHY
part G text: NAND/SPI
part H text: DDR2
part I text: PMU
part J text: PCIe
part K text: PLL
part L text: POWER
part M text: RF

## NC5FAH
designator J?
5 pole female XLR receptacle, grounded; Manufacturer: Neutrik; PartNumber: NC5FAH
footprint NC5FAH (5 pole female XLR receptacle)
pins: 1, 2, 3, 4, 5, G

## NC5MAH
designator J?
5 pole male XLR receptacle, grounded; Manufacturer: Neutrik; PartNumber: NC5MAH
footprint NC5MAH (5 pole male XLR receptacle)
pins: 1, 2, 3, 4, 5, G

## NC7WZ16
designator U?
TinyLogic UHS Dual Buffer; Manufacturer: Fairchild; PartNumber: NC7WZ16P6X; ComponentLink2Description: Datasheet; ComponentLink2URL: NC7WZ16-97681.pdf
footprint SC70, 6-lead, 1.25mm
pins: 1 A1 (in) "Input 1", 2 GND (power) "Ground", 3 A2 (in) "Input 2", 4 Y2 (out) "Output 2", 5 VCC (power) "Supply Voltage (1.65-5.5V)", 6 Y1 (out) "Output 1"

## NCV4264ST33T3G
designator U?
100 mA Low Dropout  Linear Regulator, 3.3V; Manufacturer: ON Semiconductor; PartNumber: NCV4264ST33T3G; ComponentLink2Description: Datasheet; ComponentLink2URL: NCV4264-D.PDF
footprint SOT--223 (TO--261)
pins: 1 Vin (power) "Unregulated input voltage; 4.5 V to 45 V.", 2 GND (power) "D Ground; substrate.", 3 Vout (power) "Regulated output voltage; collector of the internal PNP pass transistor.", 4 GND "Ground; substrate and best thermal connection to the die."

## nSMD020-30V
designator F?
Surface Mount Fuses 30V 100A 200mA 460mA 1206 RoHS; Manufacturer: Sea & Land Electronic Corp; PartNumber: NSMD020-30V; ComponentLink2Description: Datasheet; ComponentLink2URL: nSMD020-30V 0-2A-30V-Self-healing-fuse_C69680.pdf
footprint SEAANDLAND_1206 (Surface Mount Fuses 1206)
pins: 1, 2

## O322550MEEA4SI
designator X?
YSO321SR 50MHZ 3.3V 25PPM SMD-3225_4P; Manufacturer: YXC扬兴科技; PartNumber: O322550MEEA4SI
footprint O322550MEEA4SI (50MHZ 3.3V 25PPM SMD-3225_4P)
pins: 1 EN (in), 2 GND (power), 3 OUT (out), 4 VDD (power)

## PA2745NL
designator T?
Common mode choke, SMD, 130 µH, 5 A, PA2745NL
footprint PA245NL
pins: 1, 2, 3, 4

## PC35H11-V0-2700K
designator LED?
2835 White LED, 0.65W (180mA), 2700K,  CRI80; Manufacturer: Lextar; PartNumber: PC35H11-V0-2700K; LCSC PartNumber: C317636
footprint PC35H11-V0 (2835 White LED, 0.65W (180mA))
pins: 1, 2

## PCF85263ATT/AJ
designator U?
Tiny Real-Time Clock/calendar with alarm function, battery switch-over, time stamp input, and I2C-bus; Manufacturer: NXP; PartNumber: PCF85263ATT/AJ
footprint TSOP65P490X110-8N (TSOP, 8-Leads, Body 3.00x3.00mm, Pitch 0.65mm, IPC Medium Density)
pins: 1 OSCI, 2 OSCO, 3 VBAT, 4 VSS, 5 SDA, 6 SCL, 7 ~{INT}(CLK), 8 VDD

## PE-65612NL
designator L?
TRANSFORMER 1:1 2000VRMS; Manufacturer: Pulse Electronics Network; PartNumber: PE-65612NL; Digikey PartNumber: 553-1580-5-ND
footprint PE-65612NL
pins: 1, 2, 3, 4

## PGA460TPWQ1
designator U?
Automotive Ultrasonic Signal Processor and Transducer Driver; Manufacturer: TI; PartNumber: PGA460-Q1
footprint TSOP65P640X120-16N (TSOP, 16-Leads, Body 5.00x4.40mm, Pitch 0.65mm, IPC Medium Density)
pins: 1 GND1, 2 INP, 3 INN, 4 GND2, 5 OUTA, 6 GNDP, 7 OUTB, 8 IO, 9 TEST, 10 TXD, 11 RXD, 12 SCLK, 13 DECPL, 14 IOREG, 15 VPWR, 16 AVDD

## PMS150C-S08
designator U?
8bit OTP Type IO Controller; Manufacturer: Padauk; PartNumber: PMS150C-S08; LCSC PartNumber: C129127
footprint SOP127P600X175-8N-3 (SOP, 8-Leads, Body 4.90x3.90mm, Pitch 1.27mm, IPC Medium Density)
pins: 1 VDD (power), 2 PA7/CIN3-, 3 PA6/CIN2-, 4 PA5/PRST#, 5 PA3/CIN1-/TM2PWM, 6 PA4/CIN+/CIN4-/TM2PWM, 7 PA0/INT0/CO, 8 GND (power)

## PMS150C-U06
designator U?
8bit OTP Type IO Controller; Manufacturer: Padauk; PartNumber: PMS150C-U06; LCSC PartNumber: C168658
footprint SOT95P280X145-6N-4 (SOT23, 6-Leads, Body 2.90x2.80mm, Pitch 0.95mm, IPC Medium Density)
pins: 1 PA4/CIN+/CIN4-/TM2PWM, 2 GND (power), 3 PA6/CIN2-, 4 PA5/PRST#, 5 VDD (power), 6 PA3/CIN1-/TM2PWM

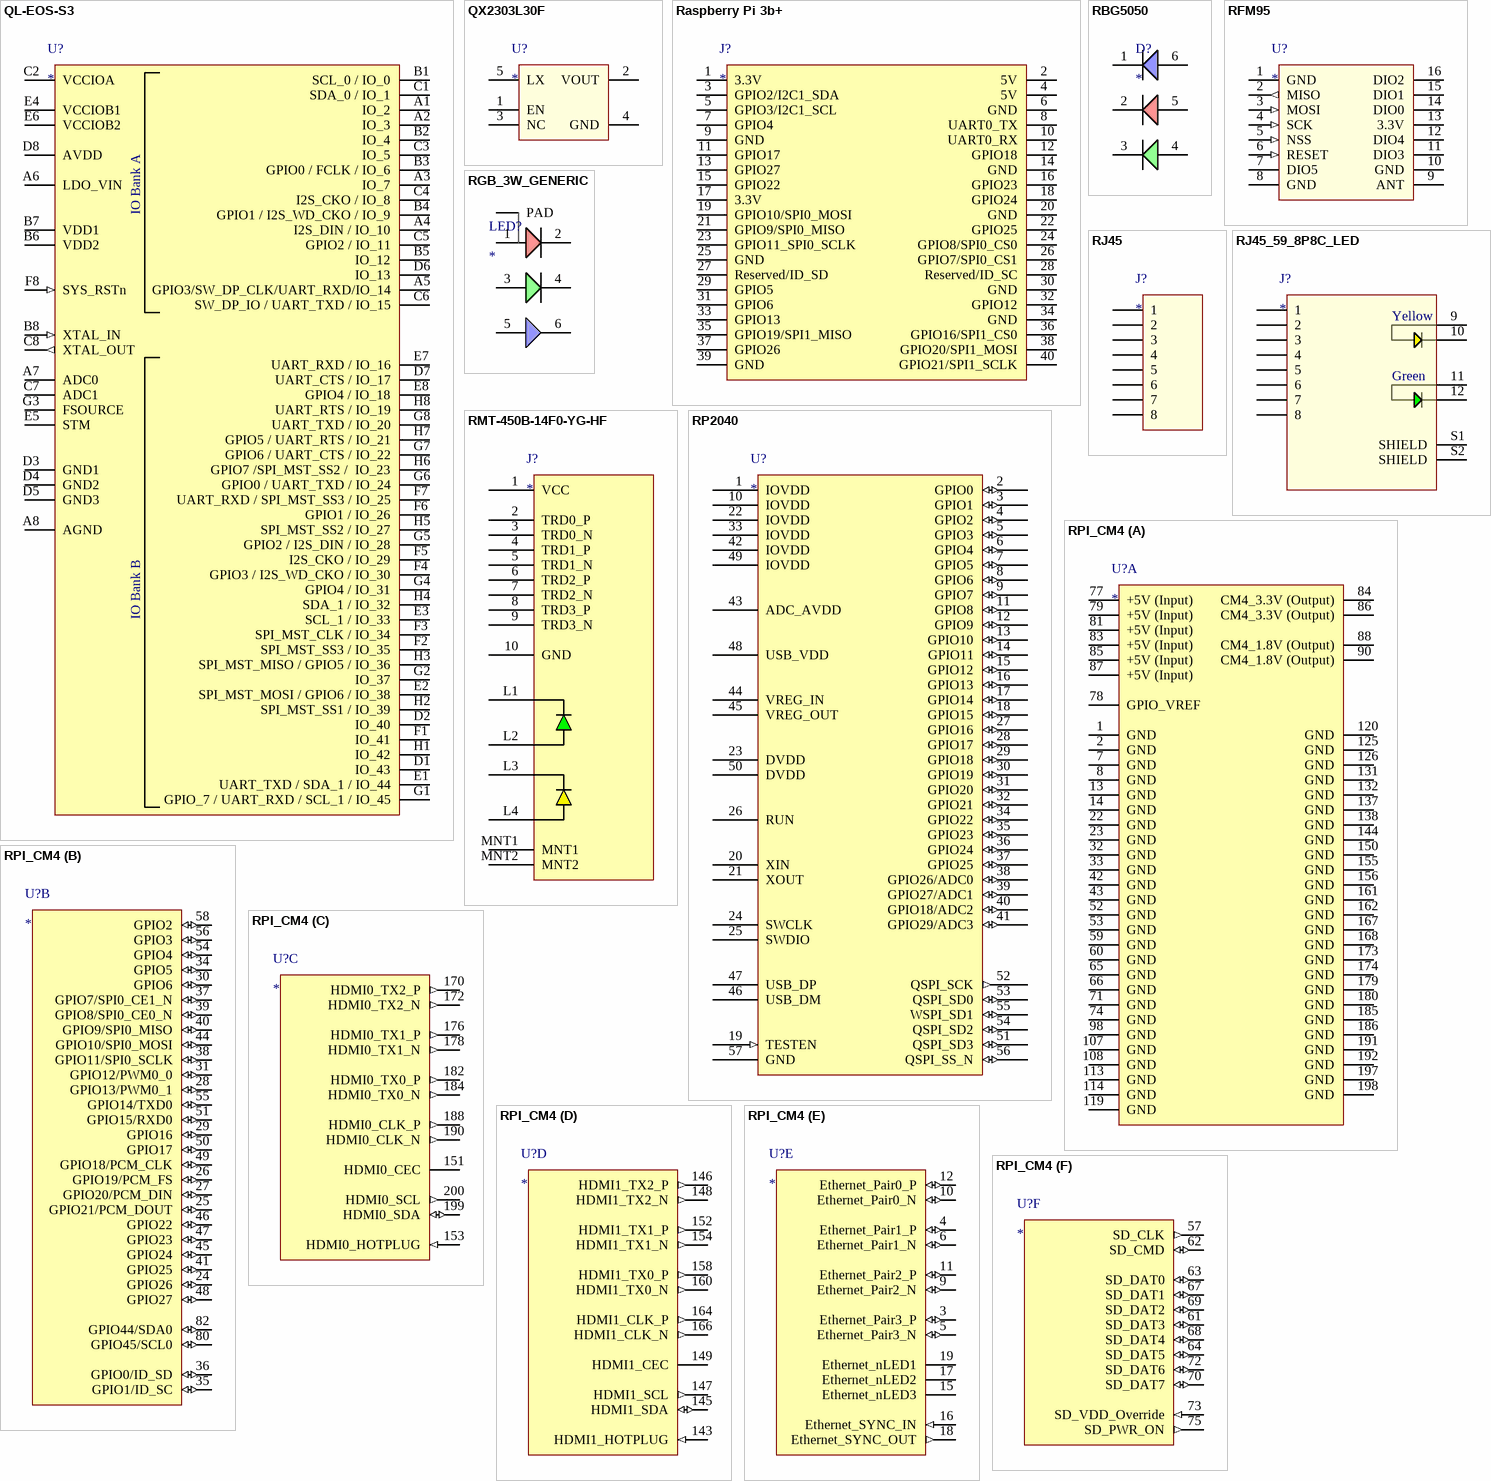
[diagram p7: symbols QL-EOS-S3 to RPI_CM4]

## QL-EOS-S3
designator U?
QuickLogicEOS S3 Ultra Low Power multicore MCU; Manufacturer: QuickLogic Corporation; PartNumber: QL-EOS-S3
footprint BGA64C40P8X8_350X350X80 (BGA, 64-Leads, Body 3.50x3.50mmx0.80mm, Pitch 0.40mm)
pins: A1 IO_2, A2 IO_3, A3 IO_7, A4 I2S_DIN / IO_10, A5 GPIO3/SW_DP_CLK/UART_RXD/IO_14, A6 LDO_VIN (power), A7 ADC0, A8 AGND (power), B1 SCL_0 / IO_0, B2 IO_4, B3 GPIO0 / FCLK / IO_6, B4 GPIO1 / I2S_WD_CKO / IO_9, B5 IO_12, B6 VDD2 (power), B7 VDD1 (power), B8 XTAL_IN (in), C1 SDA_0 / IO_1, C2 VCCIOA (power), C3 IO_5, C4 I2S_CKO / IO_8, C5 GPIO2 / IO_11, C6 SW_DP_IO / UART_TXD / IO_15, C7 ADC1, C8 XTAL_OUT (out), D1 IO_43, D2 IO_40, D3 GND1 (power), D4 GND2 (power), D5 GND3 (power), D6 IO_13, D7 UART_CTS / IO_17, D8 AVDD (power), E1 UART_TXD / SDA_1 / IO_44, E2 SPI_MST_MOSI / GPIO6 / IO_38, E3 SCL_1 / IO_33, E4 VCCIOB1 (power), E5 STM, E6 VCCIOB2 (power), E7 UART_RXD / IO_16, E8 GPIO4 / IO_18, F1 IO_41, F2 SPI_MST_SS3 / IO_35, F3 SPI_MST_CLK / IO_34, F4 GPIO3 / I2S_WD_CKO / IO_30, F5 I2S_CKO / IO_29, F6 GPIO1 / IO_26, F7 UART_RXD / SPI_MST_SS3 / IO_25, F8 SYS_RSTn (in), G1 GPIO_7 / UART_RXD / SCL_1 / IO_45, G2 IO_37, G3 FSOURCE, G4 GPIO4 / IO_31, G5 GPIO2 / I2S_DIN / IO_28, G6 GPIO0 / UART_TXD / IO_24, G7 GPIO6 / UART_CTS / IO_22, G8 UART_TXD / IO_20, H1 IO_42, H2 SPI_MST_SS1 / IO_39, H3 SPI_MST_MISO / GPIO5 / IO_36, H4 SDA_1 / IO_32, H5 SPI_MST_SS2 / IO_27, H6 GPIO7 /SPI_MST_SS2 /  IO_23, H7 GPIO5 / UART_RTS / IO_21, H8 UART_RTS / IO_19
text: IO Bank A; IO Bank B

## QX2303L30F
designator U?
PFM Boost DC-DC Converter; Manufacturer: QX Micro Devices; PartNumber: QX2303L30F; ComponentLink2Description: Datasheet; ComponentLink2URL: QX2303.pdf
footprint SOT95P280X130-5N (SOT23, 5-Leads, Body 2.90x2.80mm, Pitch 0.95mm, IPC Medium Density)
pins: 1 EN, 2 VOUT, 3 NC, 4 GND, 5 LX

## Raspberry Pi 3b+
designator J?
Raspberry Pi shield Header
footprint RaspberryPi_Connector
pins: 1 3.3V, 2 5V, 3 GPIO2/I2C1_SDA, 4 5V, 5 GPIO3/I2C1_SCL, 6 GND, 7 GPIO4, 8 UART0_TX, 9 GND, 10 UART0_RX, 11 GPIO17, 12 GPIO18, 13 GPIO27, 14 GND, 15 GPIO22, 16 GPIO23, 17 3.3V, 18 GPIO24, 19 GPIO10/SPI0_MOSI, 20 GND, 21 GPIO9/SPI0_MISO, 22 GPIO25, 23 GPIO11_SPI0_SCLK, 24 GPIO8/SPI0_CS0, 25 GND, 26 GPIO7/SPI0_CS1, 27 Reserved/ID_SD, 28 Reserved/ID_SC, 29 GPIO5, 30 GND, 31 GPIO6, 32 GPIO12, 33 GPIO13, 34 GND, 35 GPIO19/SPI1_MISO, 36 GPIO16/SPI1_CS0, 37 GPIO26, 38 GPIO20/SPI1_MOSI, 39 GND, 40 GPIO21/SPI1_SCLK

## RBG5050
designator D?
Generic RGB LED in 5050 package. Note that several variants exist, so check the pinout!; PartNumber: Unknown/Generic; Manufacturer: Unknown/Generic
footprint 5050RGB
pins: 1, 2, 3, 4, 5, 6

## RFM95
designator U?
RFM95/96/97/98(W) - Low Power Long Range Transceiver Module; Manufacturer: HopeRF; PartNumber: RFM95
footprint RFM95/96/97/98 (Low Power Long Range Transceiver Module)
pins: 1 GND (power), 2 MISO (out), 3 MOSI (in), 4 SCK (in), 5 NSS (in), 6 RESET (in), 7 DIO5, 8 GND (power), 9 ANT, 10 GND (power), 11 DIO3, 12 DIO4, 13 3.3V (power), 14 DIO0, 15 DIO1, 16 DIO2

## RGB_3W_GENERIC
designator LED?
3W RGB LED in ceramic package; Manufacturer: Unknown/Generic; PartNumber: Unknown/Generic
footprint RGB_3W_GENENRIC (3W RGB LED, generic version)
pins: 1, 2, 3, 4, 5, 6, PAD

## RJ45
designator J?
CONN MOD JACK 8P8C R/A SHIELDED; Manufacturer: Wurth Electronics Inc; PartNumber: 61500814221; ComponentLink2Description: Datasheet; ComponentLink2URL: Wurth Modular Jack Conn WR-MJ.pdf
footprint WURTH 61500814221 (CONN MOD JACK 8P8C R/A SHIELDED)
pins: 1, 2, 3, 4, 5, 6, 7, 8

## RJ45_59_8P8C_LED
designator J?
Generic RJ49 jack with LED and without magnetics; PartNumber: RJ45_59_8P8C_LED; Manufacturer: Unknown/Generic
footprint RJ45_59_8P8C_LED (Generic RJ49 jack with LED and without magnetics)
pins: 1, 2, 3, 4, 5, 6, 7, 8, 9 Yellow Anode, 10 Yellow Cathode, 11 Green Anode, 12 Green Cathode, S1 SHIELD, S2 SHIELD
text: Yellow; Green

## RMT-450B-14F0-YG-HF
designator J?
footprint RMT-450B-14F0-YG-HF
pins: 1 VCC, 2 TRD0_P, 3 TRD0_N, 4 TRD1_P, 5 TRD1_N, 6 TRD2_P, 7 TRD2_N, 8 TRD3_P, 9 TRD3_N, 10 GND, L1, L2, L3, L4, MNT1, MNT2

## RP2040
designator U?
ARM® Cortex®-M0+ - Microcontroller IC 32-Bit Dual-Core 133MHz External Program Memory 56-QFN (7x7); Manufacturer: Raspberry Pi; PartNumber: SC0914(13); Digikey PartNumber: 2648-SC0914(13)TR-ND
footprint QFN40P700X700X90_HS-57N2 (QFN, 56-Leads, Body 7.00x7.00mm, Pitch 0.40mm, Thermal Pad 3.10x3.10mm, IPC Medium Density)
pins: 1 IOVDD (power), 2 GPIO0 (io), 3 GPIO1 (io), 4 GPIO2 (io), 5 GPIO3 (io), 6 GPIO4 (io), 7 GPIO5 (io), 8 GPIO6 (io), 9 GPIO7 (io), 10 IOVDD (power), 11 GPIO8 (io), 12 GPIO9 (io), 13 GPIO10 (io), 14 GPIO11 (io), 15 GPIO12 (io), 16 GPIO13 (io), 17 GPIO14 (io), 18 GPIO15 (io), 19 TESTEN (in), 20 XIN, 21 XOUT, 22 IOVDD (power), 23 DVDD (power), 24 SWCLK, 25 SWDIO, 26 RUN, 27 GPIO16 (io), 28 GPIO17 (io), 29 GPIO18 (io), 30 GPIO19 (io), 31 GPIO20 (io), 32 GPIO21 (io), 33 IOVDD (power), 34 GPIO22 (io), 35 GPIO23 (io), 36 GPIO24 (io), 37 GPIO25 (io), 38 GPIO26/ADC0 (io), 39 GPIO27/ADC1 (io), 40 GPIO18/ADC2 (io), 41 GPIO29/ADC3 (io), 42 IOVDD (power), 43 ADC_AVDD (power), 44 VREG_IN (power), 45 VREG_OUT, 46 USB_DM, 47 USB_DP, 48 USB_VDD (power), 49 IOVDD (power), 50 DVDD (power), 51 QSPI_SD3 (io), 52 QSPI_SCK (out), 53 QSPI_SD0 (io), 54 QSPI_SD2 (io), 55 WSPI_SD1 (io), 56 QSPI_SS_N (io), 57 GND

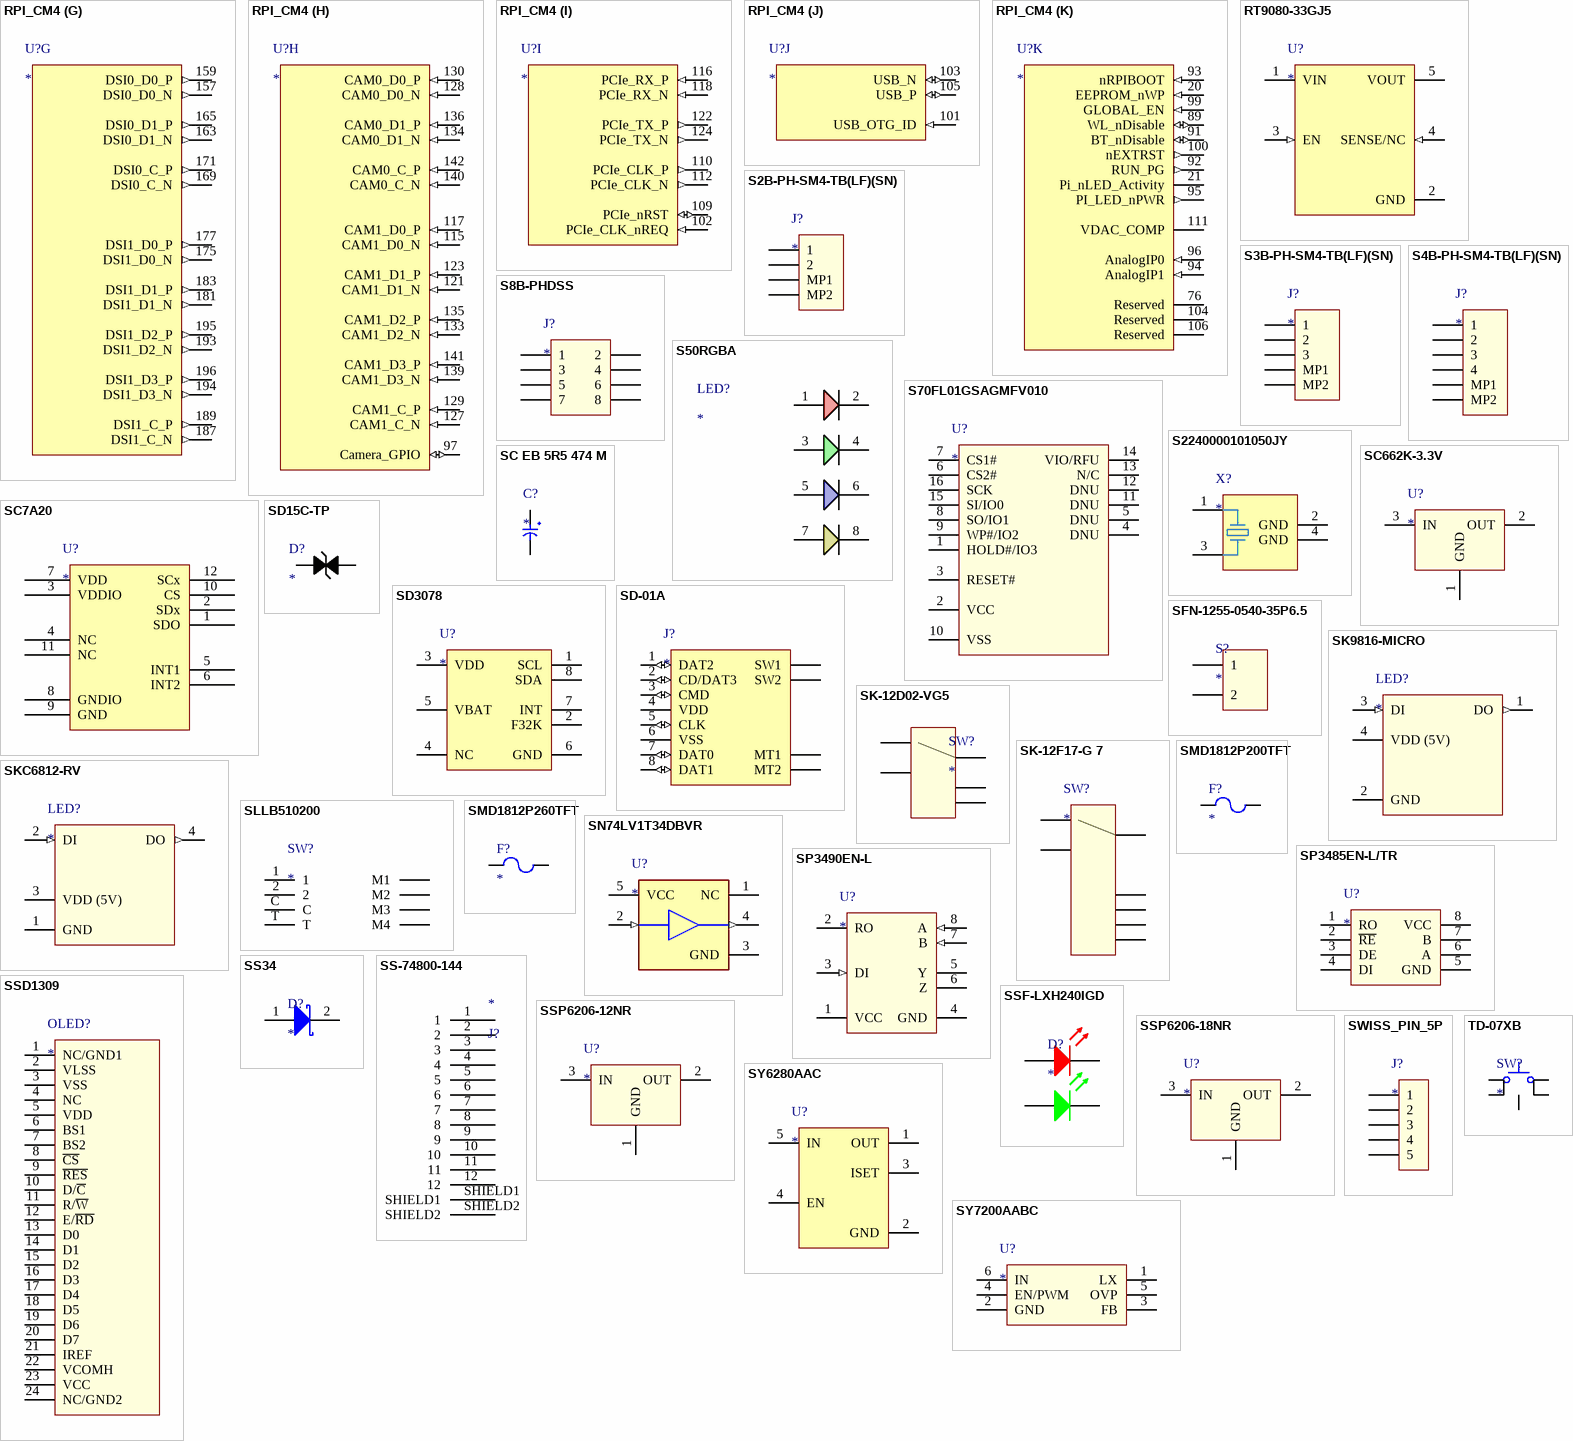
[diagram p8: symbols RPI_CM4 to TD-07XB]

## RPI_CM4
designator U?
footprint rpi_cm4
part A pins: 1 GND (power), 2 GND (power), 7 GND (power), 8 GND (power), 13 GND (power), 14 GND (power), 22 GND (power), 23 GND (power), 32 GND (power), 33 GND (power), 42 GND (power), 43 GND (power), 52 GND (power), 53 GND (power), 59 GND (power), 60 GND (power), 65 GND (power), 66 GND (power), 71 GND (power), 74 GND (power), 77 +5V (Input) (power), 78 GPIO_VREF (power), 79 +5V (Input) (power), 81 +5V (Input) (power), 83 +5V (Input) (power), 84 CM4_3.3V (Output) (power), 85 +5V (Input) (power), 86 CM4_3.3V (Output) (power), 87 +5V (Input) (power), 88 CM4_1.8V (Output) (power), 90 CM4_1.8V (Output) (power), 98 GND (power), 107 GND (power), 108 GND (power), 113 GND (power), 114 GND (power), 119 GND (power), 120 GND (power), 125 GND (power), 126 GND (power), 131 GND (power), 132 GND (power), 137 GND (power), 138 GND (power), 144 GND (power), 150 GND (power), 155 GND (power), 156 GND (power), 161 GND (power), 162 GND (power), 167 GND (power), 168 GND (power), 173 GND (power), 174 GND (power), 179 GND (power), 180 GND (power), 185 GND (power), 186 GND (power), 191 GND (power), 192 GND (power), 197 GND (power), 198 GND (power)
part B pins: 24 GPIO26 (io), 25 GPIO21/PCM_DOUT (io), 26 GPIO19/PCM_FS (io), 27 GPIO20/PCM_DIN (io), 28 GPIO13/PWM0_1 (io), 29 GPIO16 (io), 30 GPIO6 (io), 31 GPIO12/PWM0_0 (io), 34 GPIO5 (io), 35 GPIO1/ID_SC (io), 36 GPIO0/ID_SD (io), 37 GPIO7/SPI0_CE1_N (io), 38 GPIO11/SPI0_SCLK (io), 39 GPIO8/SPI0_CE0_N (io), 40 GPIO9/SPI0_MISO (io), 41 GPIO25 (io), 44 GPIO10/SPI0_MOSI (io), 45 GPIO24 (io), 46 GPIO22 (io), 47 GPIO23 (io), 48 GPIO27 (io), 49 GPIO18/PCM_CLK (io), 50 GPIO17 (io), 51 GPIO15/RXD0 (io), 54 GPIO4 (io), 55 GPIO14/TXD0 (io), 56 GPIO3 (io), 58 GPIO2 (io), 80 GPIO45/SCL0 (io), 82 GPIO44/SDA0 (io)
part C pins: 151 HDMI0_CEC (oc), 153 HDMI0_HOTPLUG (in), 170 HDMI0_TX2_P (out), 172 HDMI0_TX2_N (out), 176 HDMI0_TX1_P (out), 178 HDMI0_TX1_N (out), 182 HDMI0_TX0_P (out), 184 HDMI0_TX0_N (out), 188 HDMI0_CLK_P (out), 190 HDMI0_CLK_N (out), 199 HDMI0_SDA (io), 200 HDMI0_SCL (out)
part D pins: 143 HDMI1_HOTPLUG (in), 145 HDMI1_SDA (io), 146 HDMI1_TX2_P (out), 147 HDMI1_SCL (out), 148 HDMI1_TX2_N (out), 149 HDMI1_CEC (oc), 152 HDMI1_TX1_P (out), 154 HDMI1_TX1_N (out), 158 HDMI1_TX0_P (out), 160 HDMI1_TX0_N (out), 164 HDMI1_CLK_P (out), 166 HDMI1_CLK_N (out)
part E pins: 3 Ethernet_Pair3_P (io), 4 Ethernet_Pair1_P (io), 5 Ethernet_Pair3_N (io), 6 Ethernet_Pair1_N (io), 9 Ethernet_Pair2_N (io), 10 Ethernet_Pair0_N (io), 11 Ethernet_Pair2_P (io), 12 Ethernet_Pair0_P (io), 15 Ethernet_nLED3 (oc), 16 Ethernet_SYNC_IN (in), 17 Ethernet_nLED2 (oc), 18 Ethernet_SYNC_OUT (out), 19 Ethernet_nLED1 (oc)
part F pins: 57 SD_CLK (out), 61 SD_DAT3 (io), 62 SD_CMD (io), 63 SD_DAT0 (io), 64 SD_DAT5 (io), 67 SD_DAT1 (io), 68 SD_DAT4 (io), 69 SD_DAT2 (io), 70 SD_DAT7 (io), 72 SD_DAT6 (io), 73 SD_VDD_Override (in), 75 SD_PWR_ON (out)
part G pins: 157 DSI0_D0_N (out), 159 DSI0_D0_P (out), 163 DSI0_D1_N (out), 165 DSI0_D1_P (out), 169 DSI0_C_N (out), 171 DSI0_C_P (out), 175 DSI1_D0_N (out), 177 DSI1_D0_P (out), 181 DSI1_D1_N (out), 183 DSI1_D1_P (out), 187 DSI1_C_N (out), 189 DSI1_C_P (out), 193 DSI1_D2_N (out), 194 DSI1_D3_N (out), 195 DSI1_D2_P (out), 196 DSI1_D3_P (out)
part H pins: 97 Camera_GPIO (io), 115 CAM1_D0_N (in), 117 CAM1_D0_P (in), 121 CAM1_D1_N (in), 123 CAM1_D1_P (in), 127 CAM1_C_N (in), 128 CAM0_D0_N (in), 129 CAM1_C_P (in), 130 CAM0_D0_P (in), 133 CAM1_D2_N (in), 134 CAM0_D1_N (in), 135 CAM1_D2_P (in), 136 CAM0_D1_P (in), 139 CAM1_D3_N (in), 140 CAM0_C_N (in), 141 CAM1_D3_P (in), 142 CAM0_C_P (in)
part I pins: 102 PCIe_CLK_nREQ (in), 109 PCIe_nRST (io), 110 PCIe_CLK_P (out), 112 PCIe_CLK_N (out), 116 PCIe_RX_P (in), 118 PCIe_RX_N (in), 122 PCIe_TX_P (out), 124 PCIe_TX_N (out)
part J pins: 101 USB_OTG_ID (in), 103 USB_N (io), 105 USB_P (io)
part K pins: 20 EEPROM_nWP (in), 21 Pi_nLED_Activity (oc), 76 Reserved, 89 WL_nDisable (io), 91 BT_nDisable (io), 92 RUN_PG (out), 93 nRPIBOOT (in), 94 AnalogIP1 (in), 95 PI_LED_nPWR (out), 96 AnalogIP0 (in), 99 GLOBAL_EN (in), 100 nEXTRST (out), 104 Reserved, 106 Reserved, 111 VDAC_COMP

## RT9080-33GJ5
designator U?
IC REG LIN 3.3V 600MA TSOT23-5; Manufacturer: Richtek USA Inc.; PartNumber: RT9080-33GJ5; LCSC PartNumber: C841192; DigiKey PartNumber: 1028-1509-1-ND
footprint SOT95P280X100-5N-2 (SOT23, 5-Leads, Body 2.90x2.80mm, Pitch 0.95mm, IPC Medium Density)
pins: 1 VIN (power), 2 GND (power), 3 EN (in), 4 SENSE/NC (in), 5 VOUT (power)

## S2B-PH-SM4-TB(LF)(SN)
designator J?
CONN HEADER SMD R/A 2POS 2MM; Manufacturer: JST; PartNumber: S2B-PH-SM4-TB(LF)(SN)
footprint S2B-PH-SM4-TB(LF)(SN) (CONN HEADER SMD R/A 2POS 2MM)
pins: 1, 2, MP1, MP2

## S3B-PH-SM4-TB(LF)(SN)
designator J?
CONN HEADER SMD R/A 3POS 2MM; Manufacturer: JST; PartNumber: S3B-PH-SM4-TB(LF)(SN)
footprint S3B-PH-SM4-TB(LF)(SN) (CONN HEADER SMD R/A 3POS 2MM)
pins: 1, 2, 3, MP1, MP2

## S4B-PH-SM4-TB(LF)(SN)
designator J?
CONN HEADER SMD R/A 4POS 2MM; Manufacturer: JST; PartNumber: S4B-PH-SM4-TB(LF)(SN)
footprint S4B-PH-SM4-TB(LF)(SN) (CONN HEADER SMD R/A 4POS 2MM)
pins: 1, 2, 3, 4, MP1, MP2

## S8B-PHDSS
designator J?
CONN HEADER R/A 8POS 2MM; Manufacturer: JST; PartNumber: S8B-PHDSS
footprint S8B-PHDSS (CONN HEADER R/A 8POS 2MM)
pins: 1, 2, 3, 4, 5, 6, 7, 8

## S50RGBA
designator LED?
RGBA LED, 5050 package, .2W; Manufacturer: Opsco; PartNumber: S50-RGBA
footprint S50-RGBX-XX-X (Opsco RGB+X LED module)
pins: 1, 2, 3, 4, 5, 6, 7, 8

## S70FL01GSAGMFV010
designator U?
1 Gbit (128 Mbyte) 3.0V SPI Flash; Manufacturer: Cypress; PartNumber: S70FL01GSAGMFV010; ComponentLink2Description: Datasheet; ComponentLink2URL: S70FL01GS_1_Gbit_128_Mbyte_3.0V_SPI_Flash.pdf
footprint SOP127P1030X265-16N (SOP, 16-Leads, Body 10.30x7.50mm, Pitch 1.27mm, IPC Medium Density)
pins: 1 HOLD#/IO3, 2 VCC, 3 RESET#, 4 DNU, 5 DNU, 6 CS2#, 7 CS1#, 8 SO/IO1, 9 WP#/IO2, 10 VSS, 11 DNU, 12 DNU, 13 N/C, 14 VIO/RFU, 15 SI/IO0, 16 SCK

## S2240000101050JY
designator X?
SMD2520 40MHZ 10PF 10PPM; PartNumber: S2240000101050JY; Manufacturer: JGHC(晶光华); LCSC PartNumber: C555614
footprint JGCH-SMD2520 (crystal 2520)
pins: 1, 2 GND, 3, 4 GND

## SC7A20
designator U?
±2G/±4G/±8G/±16G three-axis micromachined digital accelerometer; Manufacturer: Hangzhou Silan Microelectronics; PartNumber: SC7A20TR; LCSC PartNumber: C5126709
footprint LGA12C50P4X4_200X200X105 (LGA, 12-Leads, Body 2.00x2.00mmx1.05mm, Pitch 0.50mm)
pins: 1 SDO, 2 SDx, 3 VDDIO, 4 NC, 5 INT1, 6 INT2, 7 VDD, 8 GNDIO, 9 GND, 10 CS, 11 NC, 12 SCx

## SC662K-3.3V
designator U?
3.3V, 250mA Low dropout voltage regulator IC; Manufacturer: Shenzhen Fuman Electronics Group Co.; PartNumber: SC662K-3.3V
footprint SOT95P230X117-3N (SOT23, 3-Leads, Body 2.90x2.30mm, Pitch 0.95mm, IPC Medium Density)
pins: 1 GND (power), 2 OUT (power), 3 IN (power)

## SC EB 5R5 474 M
designator C?
Wincap .47F, 5.5V, thru-hole supercap; PartNumber: SC EB 5R5 474 M; Manufacturer: Wincap
footprint SC EB 5R5 474 M (Wincap 5.5V, .47F supercap)
pins: 1, 2

## SD15C-TP
designator D?
Bidirectional 15V 16.7V 40V 12A(8/20us) SOD-323 Diodes - ESD RoHS; Manufacturer: Micro Commercial Co; PartNumber: SD15C-TP; LCSC PartNumber: C402365; DigiKey PartNumber: SD15C-TPMSCT-ND
footprint SOD-323 (TSOP, 2-Leads, Body 1.25x1.70mm, Pitch 1.27mm, IPC Medium Density)
pins: 1, 2

## SD3078
designator U?
SD3078 Real-time clock chip with built-in crystal oscillator; Manurfacturer: WAVE; PartNumber: SD3078; LCSC PartNumber: C916255
footprint SOP127P790X190-8N (SOP, 8-Leads, Body 5.23x5.28mm, Pitch 1.27mm, IPC Medium Density)
pins: 1 SCL, 2 F32K, 3 VDD, 4 NC, 5 VBAT, 6 GND, 7 INT, 8 SDA

## SD-01A
designator J?
1.9mm Deck MicroSD card (TF card) Pluggable SMD SD Card Connectors; Manufacturer: HRO; PartNumber: SD-01A; LCSC PartNumber: C693845
footprint SD-01A (1.9mm Deck MicroSD card)
pins: 1 DAT2 (io), 2 CD/DAT3 (io), 3 CMD (io), 4 VDD (power), 5 CLK (io), 6 VSS (power), 7 DAT0 (io), 8 DAT1 (io), MT1, MT2, SW1, SW2

## SFN-1255-0540-35P6.5
designator S?
Piezo Buzzer, 4KHz; Manufacturer: S&S; PartNumber: SFN-1255-0540-35P6.5
footprint SFN-1255-0540-35P6.5 (Piezo Buzzer, 4KHz)
pins: 1, 2

## SK9816-MICRO
designator LED?
Small 16-bit digital LED; Manufacturer: Opsco; PartNumber: SK9816-MICRO
footprint SK 9816-MICRO
pins: 1 DO (out) "Data out", 2 GND (power) "Ground", 3 DI (in) "Data input", 4 VDD (5V) (power) "Regulated 5V output"

## SK-12D02-VG5
designator SW?
Toggle Switches Plugin RoHS; Manufacturer: HRO; PartNumber: SK-12D02-VG5
footprint SK-12D02-VG5
pins: 1 A, 2 COMMON, 3 B, 4 M1, 5 M2

## SK-12F17-G 7
designator SW?
SWITCH SLIDE SPDT 300MA 30V; Manufacturer: C&K; PartNumber: SK-12F17-G 7
footprint SK-12F17-G 7 (SWITCH SLIDE SPDT 300MA 30V)
pins: 1, 2, 3, M1, M2, M3, M4

## SKC6812-RV
designator LED?
5.0x4.8x1.6 mm 0.2W Intelligent external control surface mount SMD LED w/reverse protection; Manufacturer: Opsco; PartNumber: SKC6812-RV
footprint WS2812B (5V digital LED in 5050 package)
pins: 1 GND (power) "Ground", 2 DI (in) "Data input", 3 VDD (5V) (power) "Regulated 5V output", 4 DO (out) "Data out"

## SLLB510200
designator SW?
Multi-Directional Switches Lever push; PartNumber: SLLB510200; Manufacturer: Alps Alpine; Mouser PartNumber: 688-SLLB510200; LCSC PartNumber: C278342
footprint SLLB510200 (Multi-Directional Switches Lever push w/ lug 9.5x8.8x2.2mm)
pins: 1, 2, C, M1, M2, M3, M4, T

## SMD1812P200TFT
designator F?
Resettable polyfuse, 2A, 8V max, 3.5A trip current; Manufacturer: Polytronics; PartNumber: SMD1812P200TFT; ComponentLink2Description: Datasheet; ComponentLink2URL: Data Sheet for SMD1812 Halogen Free-R
footprint FUSE1812 (1812 Polyfuse, generic)
pins: 1, 2

## SMD1812P260TFT
designator F?
Resettable polyfuse, 2.6A, 8V max, 5A trip current; Manufacturer: Polytronics; PartNumber: SMD1812P260TFT; ComponentLink2Description: Datasheet; ComponentLink2URL: Data Sheet for SMD1812 Halogen Free-R
footprint FUSE1812 (1812 Polyfuse, generic)
pins: 1, 2

## SN74LV1T34DBVR
designator U?
IC BUF NON-INVERT 5.5V SOT23-5; PartNumber: SN74LV1T34DBVR; Manufacturer: TI; Digikey PartNumber: 296-37176-2-ND; LCSC PartNumber: C100024
footprint FP-DBV0005A-IPC_B
pins: 1 NC, 2 A (in), 3 GND (power), 4 Y (out), 5 VCC (power)

## SP3485EN-L/TR
designator U?
+3.3V Low Power Half-Duplex RS-485 Transceiver with 10Mbps Data Rate; Manufacturer: EXAR; PartNumber: SP3485EN-L/TR
footprint SOIC127P600X175-8N_exar (SOIC, 8-Leads, Body 4.90x3.90mm, Pitch 1.27mm, IPC Medium Density)
pins: 1 RO, 2 ~{RE}, 3 DE, 4 DI, 5 GND, 6 A, 7 B, 8 VCC